# Altium integrated library OSSI-1 Z Panel.IntLib: 229 symbols (part 1 of 2)
Pins are listed as number, name and electrical type; pins without a type are passive.

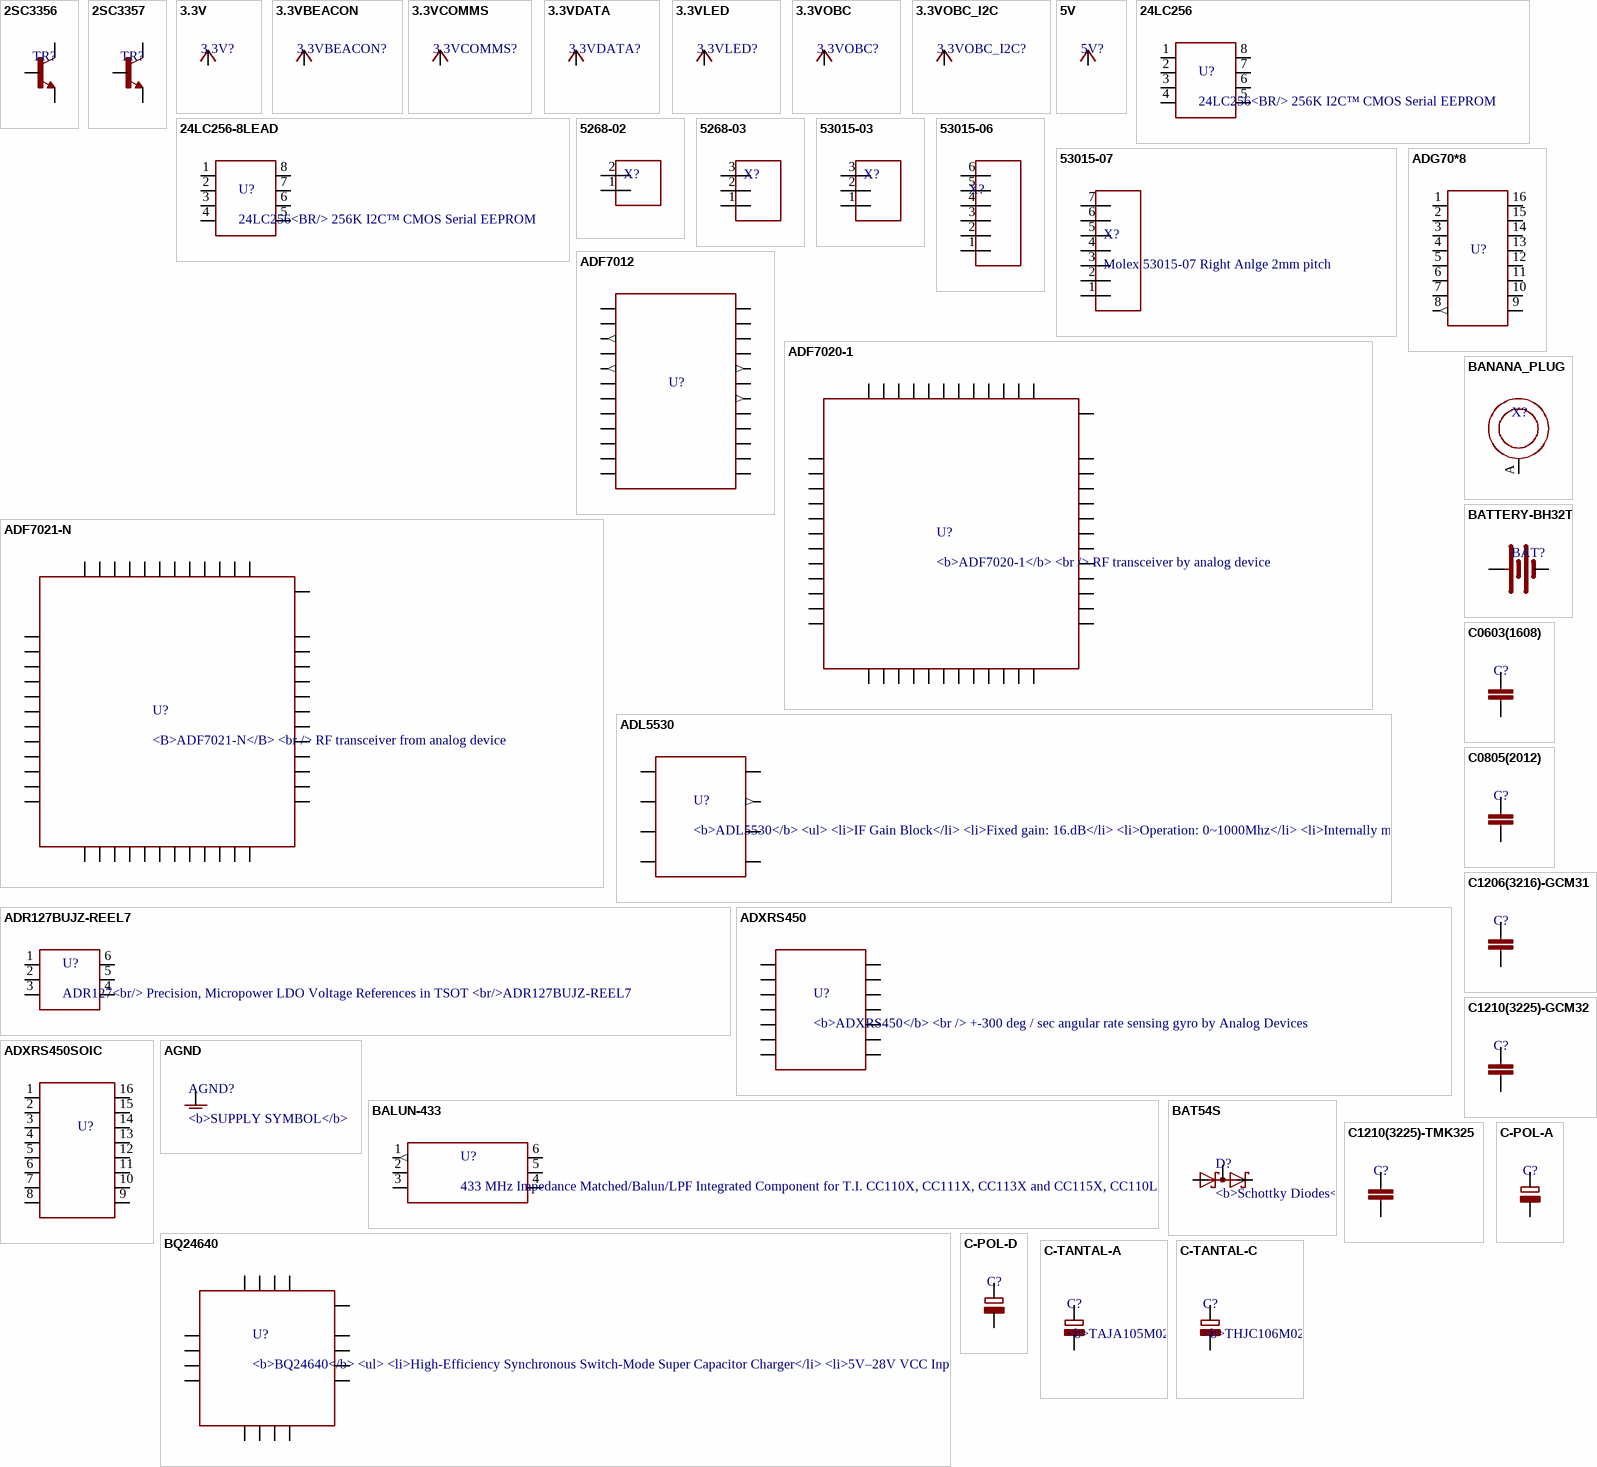
[diagram p0: symbols 2SC3356 to C-TANTAL-C]

## 2SC3356
designator TR?
footprint SOT23-BEC
pins: B, C, E

## 2SC3357
designator TR?
footprint SOT89-R
pins: B, C, E

## 3.3V
designator 3.3V?
pins: 3.3V (oe)

## 3.3VBEACON
designator 3.3VBEACON?
pins: 3.3VBEACON (oe)

## 3.3VCOMMS
designator 3.3VCOMMS?
pins: 3.3VCOMMS (oe)

## 3.3VDATA
designator 3.3VDATA?
pins: 3.3VDATA (oe)

## 3.3VLED
designator 3.3VLED?
pins: 3.3VLED (oe)

## 3.3VOBC
designator 3.3VOBC?
pins: 3.3VOBC (oe)

## 3.3VOBC_I2C
designator 3.3VOBC_I2C?
pins: 3.3VOBC_I2C (oe)

## 5V
designator 5V?
pins: 5V (oe)

## 24LC256
designator U?, comment 24LC256<BR/> / 256K I2C™ CMOS Serial EEPROM
footprint SO8
pins: 1 P$1, 2 P$2, 3 P$3, 4 P$4, 5 P$5, 6 P$6, 7 P$7, 8 P$8

## 24LC256-8LEAD
designator U?, comment 24LC256<BR/> / 256K I2C™ CMOS Serial EEPROM
footprint SO08-208
pins: 1 P$1, 2 P$2, 3 P$3, 4 P$4, 5 P$5, 6 P$6, 7 P$7, 8 P$8

## 5268-02
designator X?
footprint 5628-02
pins: 1, 2

## 5268-03
designator X?
footprint 5268-03
pins: 1, 2, 3

## 53015-03
designator X?
footprint 53015-03
pins: 1, 2, 3

## 53015-06
designator X?
footprint 53015-06
pins: 1, 2, 3, 4, 5, 6

## 53015-07
designator X?, comment Molex 53015-07 / Right Anlge 2mm pitch
footprint 53015-07
pins: 1, 2, 3, 4, 5, 6, 7

## ADF7012
designator U?
footprint TSSOP24
pins: 1 DVDD_1 (power), 2 CREG1, 3 CPOUT (out), 4 TXDATA, 5 TXCLK (out), 6 MUXOUT (power), 7 DGND, 8 OSC1, 9 OSC2, 10 CLKOUT, 11 CLK, 12 DATA, 13 LE, 14 CE, 15 L1, 16 L2, 17 CVCO, 18 VCOIN (out), 19 RFGND (power), 20 RFOUT (out), 21 DVDD_2 (power), 22 AGND (power), 23 RSET, 24 CREG2

## ADF7020-1
designator U?, comment <b>ADF7020-1</b> / <br /> / RF transceiver by analog device
footprint LFCSP48
pins: 1 P$1, 2 P$2, 3 P$3, 4 P$4, 5 P$5, 6 P$6, 7 P$7, 8 P$8, 9 P$9, 10 P$10, 11 P$11, 12 P$12, 13 P$13, 14 P$14, 15 P$15, 16 P$16, 17 P$17, 18 P$18, 19 P$19, 20 P$20, 21 P$21, 22 P$22, 23 P$23, 24 P$24, 25 P$25, 26 P$26, 27 P$27, 28 P$28, 29 P$29, 30 P$30, 31 P$31, 32 P$32, 33 P$33, 34 P$34, 35 P$35, 36 P$36, 37 P$37, 38 P$38, 39 P$39, 40 P$40, 41 P$41, 42 P$42, 43 P$43, 44 P$44, 45 P$45, 46 P$46, 47 P$47, 48 P$48, EXP P$49

## ADF7021-N
designator U?, comment <B>ADF7021-N</B> / <br /> / RF transceiver from analog device
footprint LFCSP48
pins: 1 P$1, 2 P$2, 3 P$3, 4 P$4, 5 P$5, 6 P$6, 7 P$7, 8 P$8, 9 P$9, 10 P$10, 11 P$11, 12 P$12, 13 P$13, 14 P$14, 15 P$15, 16 P$16, 17 P$17, 18 P$18, 19 P$19, 20 P$20, 21 P$21, 22 P$22, 23 P$23, 24 P$24, 25 P$25, 26 P$26, 27 P$27, 28 P$28, 29 P$29, 30 P$30, 31 P$31, 32 P$32, 33 P$33, 34 P$34, 35 P$35, 36 P$36, 37 P$37, 38 P$38, 39 P$39, 40 P$40, 41 P$41, 42 P$42, 43 P$43, 44 P$44, 45 P$45, 46 P$46, 47 P$47, 48 P$48, EXP P$49

## ADG70*8
designator U?
footprint TSSOP16-RU
pins: 1 P$1, 2 P$2, 3 P$3 (power), 4 P$4, 5 P$5, 6 P$6, 7 P$7, 8 P$8 (out), 9 P$9, 10 P$10, 11 P$11, 12 P$12, 13 P$13 (power), 14 P$14 (power), 15 P$15, 16 P$16

## ADL5530
designator U?, comment <b>ADL5530</b> / <ul> / <li>IF Gain Block</li> / <li>Fixed gain: 16.dB</li> / <li>Operation: 0~1000Mhz</li> / <li>Internally matched input and output to 50 Ω</li> / <li>Power supply: 3V or 5V</li> / <li>110 mA power supply current</li> / </ul>
footprint LFCSP8_CP
pins: 1, 2, 3, 4, 5, 6, 7 (out), 8 (power)

## ADR127BUJZ-REEL7
designator U?, comment ADR127<br/> / Precision, Micropower LDO Voltage / References in TSOT / <br/>ADR127BUJZ-REEL7
footprint TSOT-6UJ-6
pins: 1 P$1, 2 P$2, 3 P$3, 4 P$4, 5 P$5, 6 P$6

## ADXRS450
designator U?, comment <b>ADXRS450</b> / <br /> / +-300 deg / sec angular rate sensing gyro by Analog Devices
footprint LCC_V
pins: 1 P$1 (power), 2 P$2 (power), 3 P$3, 4 P$4 (power), 5 P$5, 6 P$6, 7 P$7 (power), 8 P$8 (power), 9 P$9, 10 P$10, 11 P$11 (power), 12 P$12, 13 P$13 (power), 14 P$14 (power)

## ADXRS450SOIC
designator U?
footprint SOIC-16CAV
pins: 1 P$1 (power), 2 P$2 (power), 3 P$3 (power), 4 P$4, 5 P$5, 6 P$6 (power), 7 P$7 (power), 8 P$8 (power), 9 P$9 (power), 10 P$10 (power), 11 P$11 (power), 12 P$12 (power), 13 P$13 (power), 14 P$14 (power), 15 P$15, 16 P$16

## AGND
designator AGND?, comment <b>SUPPLY SYMBOL</b>
pins: AGND (oe)

## BALUN-433
designator U?, comment 433 MHz Impedance Matched/Balun/LPF Integrated Component for T.I. CC110X, CC111X, CC113X and CC115X, CC110L, CC113L, CC115L and CC430<br /> / P/N 0433BM15A0001<br /> / <a href="www.johansontechnology.com">www.johansontechnology.com</a>
footprint 0433BM15A0001
pins: 1 (out), 2 (power), 3, 4, 5 (power), 6 (power)

## BANANA_PLUG
designator X?
footprint BANANA_PLUG
pins: A

## BAT54S
designator D?, comment <b>Schottky Diodes</b><p> / Pin connection corrected 2011-05-04<br> / Source: Fairchild .. BAT54.pdf
footprint SOT23
pins: 1 A1, 2 C2, 3 C1A2

## BATTERY-BH32T
designator BAT?
footprint BH32T-C-G
pins: N - (power), P + (power)

## BQ24640
designator U?, comment <b>BQ24640</b> / <ul> / <li>High-Efficiency Synchronous Switch-Mode Super Capacitor Charger</li> / <li>5V–28V VCC Input Voltage Range</li> / <li>Over 90% Efficiency for up to 10A Charge / Current</li> / </ul>
footprint QFN-16
pins: 1 P$1, 2 P$2, 3 P$3, 4 P$4, 5 P$5, 6 P$6, 7 P$7, 8 P$8, 9 P$9, 10 P$10, 11 P$11, 12 P$12, 13 P$13, 14 P$14, 15 P$15, 16 P$16, TPAD P$17 (power)

## C0603(1608)
designator C?
footprint C0603(1608)
pins: 1, 2

## C0805(2012)
designator C?
footprint C0805(2012)
pins: 1, 2

## C1206(3216)-GCM31
designator C?
footprint C1206-GCM31
pins: P$1 1, P$2 2

## C1210(3225)-GCM32
designator C?
footprint C1210-GCM32
pins: P$1 1, P$2 2

## C1210(3225)-TMK325
designator C?
footprint C1210-TMK325
pins: P$1 1, P$2 2

## C-POL-A
designator C?
footprint C3216-18TANTAL_A
pins: +, -

## C-POL-D
designator C?
footprint C7343-31TANTAL_D
pins: +, -

## C-TANTAL-A
designator C?, comment <b>TAJA105M020RNJ</b> / <ul> / <li>Tantal Capacitor / </li> / <li>Manufacturer: AVX / </li> / <li>1206(3126) / </li> / <li>Ref: www.avx.com/docs/techinfo/tantappl.pdf</li> / </ul>
footprint C1206(3216)-A
pins: 1 +, 2 -

## C-TANTAL-C
designator C?, comment <b>THJC106M025RJN</b> / <ul> / <li>Taltal Capacitor</li> / <li> manufacture: AVX </li> / <li>2312(6032)</li> / </ul>
footprint C2312(6032)-C
pins: 1 +, 2 -

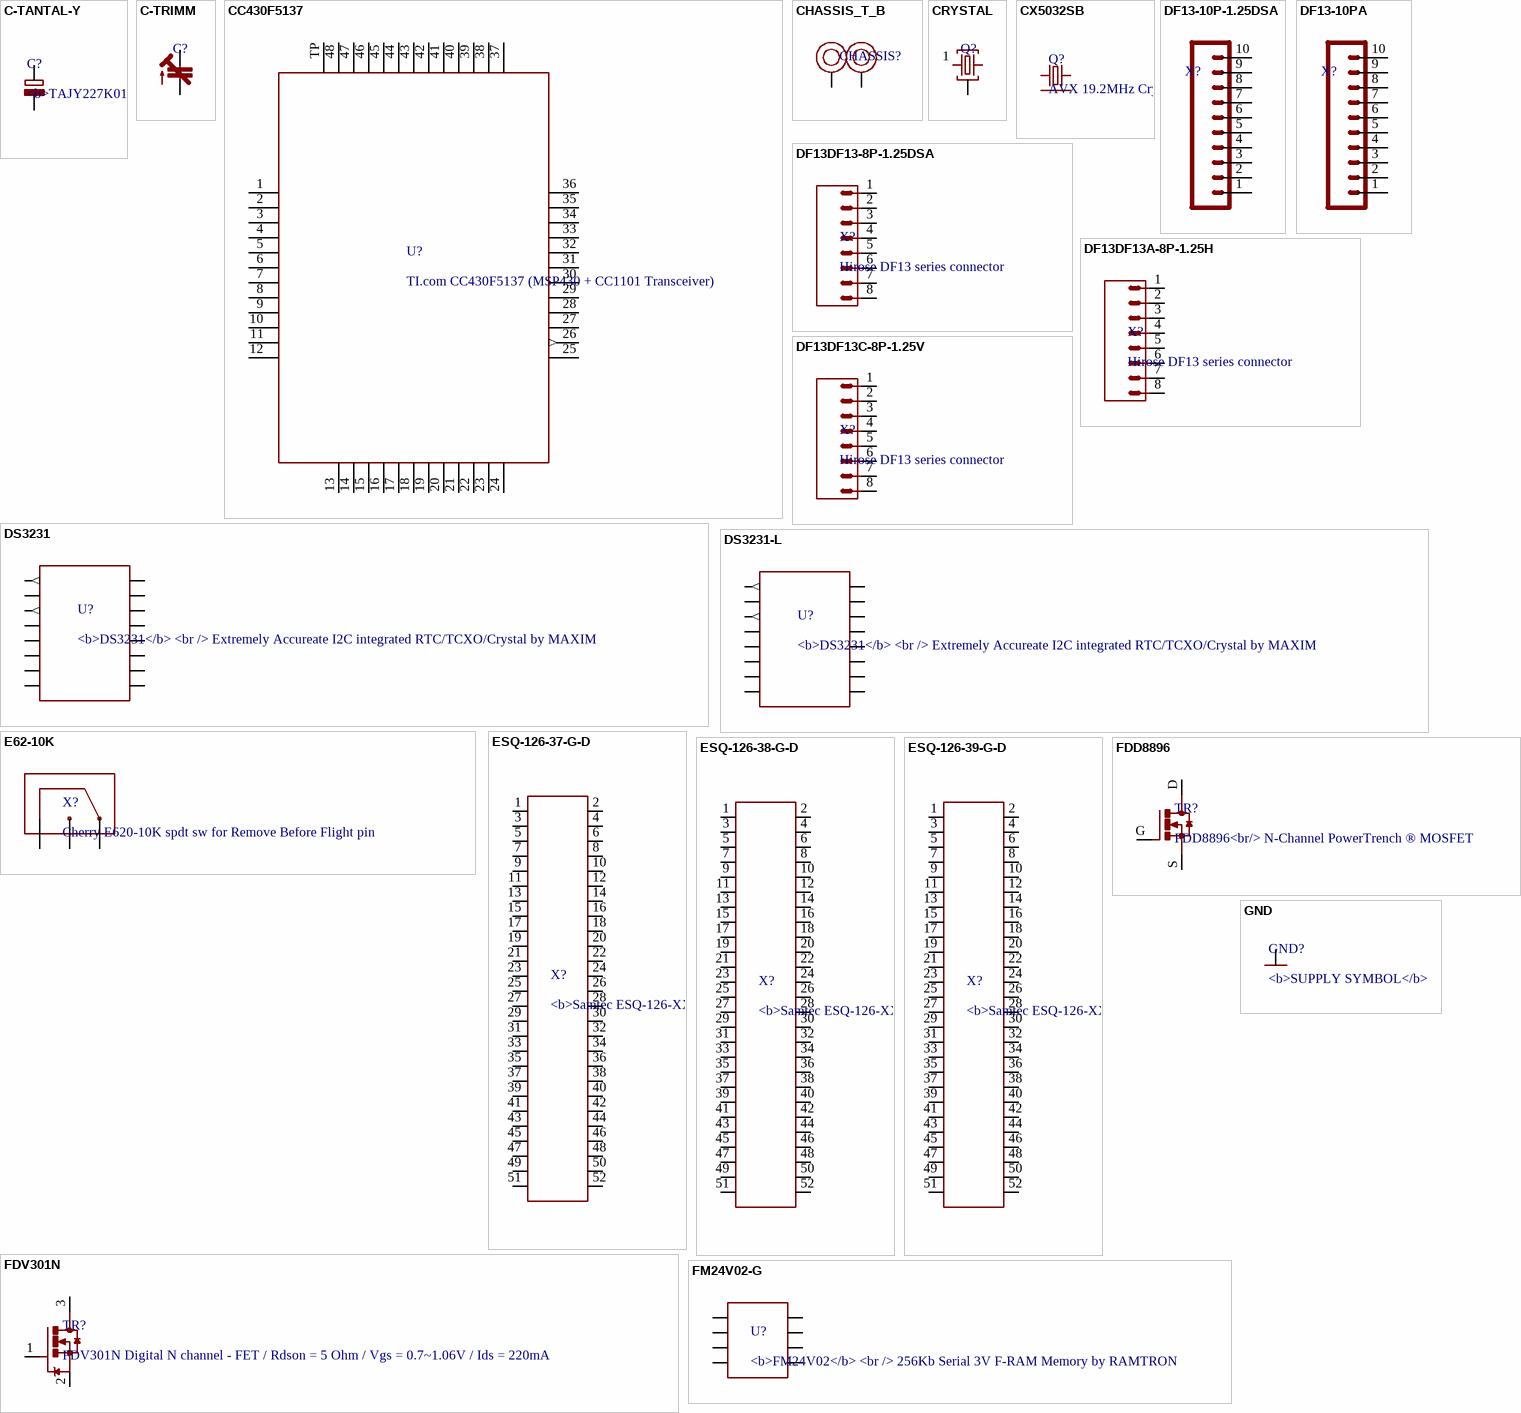
[diagram p1: symbols C-TANTAL-Y to GND]

## C-TANTAL-Y
designator C?, comment <b>TAJY227K010RNJ</b> / <ul> / <li>Taltal Capacitor</li> / <li> manufacture: AVX </li> / <li>2917(7343)</li> / </ul>
footprint C2917(7343)-Y
pins: 1 +, 2 -

## C-TRIMM
designator C?
footprint TZB4Z250BA10R00
pins: + E, - A

## CC430F5137
designator U?, comment TI.com CC430F5137 (MSP430 + CC1101 Transceiver)
footprint RGZ48
pins: 1 P$1, 2 P$2, 3 P$3, 4 P$4, 5 P$5, 6 P$6, 7 P$7 (power), 8 P$8 (power), 9 P$9, 10 P$10, 11 P$11, 12 P$12, 13 P$13, 14 P$14, 15 P$15, 16 P$16, 17 P$17, 18 P$18, 19 P$19, 20 P$20, 21 P$21, 22 P$22 (power), 23 P$23, 24 P$24, 25 P$25, 26 P$26 (out), 27 P$27 (power), 28 P$28, 29 P$29, 30 P$30, 31 P$31 (power), 32 P$32 (power), 33 P$33 (power), 34 P$34 (power), 35 P$35, 36 P$36, 37 P$37, 38 P$38, 39 P$39, 40 P$40, 41 P$41 (power), 42 P$42 (power), 43 P$43, 44 P$44, 45 P$45, 46 P$46, 47 P$47, 48 P$48, TP P$49 (power)

## CHASSIS_T_B
designator CHASSIS?
footprint CHASSIS_T_B
pins: A, B

## CRYSTAL
designator Q?
footprint HC_49US
pins: 1, 2, 3

## CX5032SB
designator Q?, comment AVX 19.2MHz Crystal CX5032SB19200F0FLJZZ <br/> / Ground pin 2 and 4 <br/> / <ul> / <li> / CRYSTAL, SM, CX-96F, 19.200MHZ</li> / <li> / Frequency:19.2MHz / </li> / <li> / Frequency Tolerance:± 10ppm / </li> / <li> / Load Capacitance:10pF / </li> / <li> / <span class="prodAttrName"> Frequency Stability:</span> / <span class="prodAttrValue">± 10ppm</span> / </li> / <li> / <span class="prodAttrName"> Operating Temperature Range:</span> / <span class="prodAttrValue">-30°C to +85°C</span> / </li> / <li> / <span class="prodAttrName"> Crystal Mounting Type:</span> / <span class="prodAttrValue">SMD</span> / </li> / <li> / <span class="prodAttrName"> Crystal Case Type:</span> / <span class="prodAttrValue">5mm x 3.2mm</span> / </li> / <li> / <span class="prodAttrName"> No. of Pins:</span> / <span class="prodAttrValue">4</span> / </li> / <li> / <span class="prodAttrName"> SVHC:</span> / <span class="prodAttrValue">No SVHC (18-Jun-2012)</span> / </li> / <li> / <span class="prodAttrName"> Accuracy:</span> / <span class="prodAttrValue">± 10ppm</span> / </li> / <li> / <span class="prodAttrName"> Frequency Accuracy + @:</span> / <span class="prodAttrValue">10ppm</span> / </li> / <li> / <span class="prodAttrName"> Frequency Accuracy - @:</span> / <span class="prodAttrValue">10ppm</span> / </li> / <li> / <span class="prodAttrName"> Operating Temperature Max:</span> / <span class="prodAttrValue">85°C</span> / </li> / <li> / <span class="prodAttrName"> Operating Temperature Min:</span> / <span class="prodAttrValue">-30°C</span> / </li> / <li> / <span class="prodAttrName"> Output Frequency:</span> / <span class="prodAttrValue">19.200MHz</span> / </li> / <li> / <span class="prodAttrName"> Series:</span> / <span class="prodAttrValue">CX5032SB</span> / </li> / <li> / <span class="prodAttrName"> Temperature Stability + @:</span> / <span class="prodAttrValue">15 ppm</span> / </li> / <li> / <span class="prodAttrName"> Temperature Stability - @:</span> / <span class="prodAttrValue">15 ppm</span> / </li> / <li> / <span class="prodAttrName"> Temperature Stabilty:</span> / <span class="prodAttrValue">± 10ppm</span> / </li> / </ul>
footprint CX5032
pins: 1, 2, 3, 4

## DF13-10P-1.25DSA
designator X?
footprint DF13-10P-1.25DSA
pins: 1, 2, 3, 4, 5, 6, 7, 8, 9, 10

## DF13-10PA
designator X?
footprint DF13A-10P
pins: 1, 2, 3, 4, 5, 6, 7, 8, 9, 10

## DF13DF13-8P-1.25DSA
designator X?, comment Hirose DF13 series connector
footprint DF13-8P-1.25DSA
pins: 1, 2, 3, 4, 5, 6, 7, 8

## DF13DF13A-8P-1.25H
designator X?, comment Hirose DF13 series connector
footprint DF13A-8P
pins: 1, 2, 3, 4, 5, 6, 7, 8

## DF13DF13C-8P-1.25V
designator X?, comment Hirose DF13 series connector
footprint DF13C-8P
pins: 1, 2, 3, 4, 5, 6, 7, 8

## DS3231
designator U?, comment <b>DS3231</b> / <br /> / Extremely Accureate I2C integrated RTC/TCXO/Crystal by MAXIM
footprint SO16
pins: 1 P$1 (out), 2 P$2 (power), 3 P$3 (out), 4 P$4, 5 P$5, 6 P$6, 7 P$7, 8 P$8, 9 P$9, 10 P$10, 11 P$11, 12 P$12, 13 P$13 (power), 14 P$14 (power), 15 P$15, 16 P$16

## DS3231-L
designator U?, comment <b>DS3231</b> / <br /> / Extremely Accureate I2C integrated RTC/TCXO/Crystal by MAXIM
footprint SO16L
pins: 1 P$1 (out), 2 P$2 (power), 3 P$3 (out), 4 P$4, 5 P$5, 6 P$6, 7 P$7, 8 P$8, 9 P$9, 10 P$10, 11 P$11, 12 P$12, 13 P$13 (power), 14 P$14 (power), 15 P$15, 16 P$16

## E62-10K
designator X?, comment Cherry E620-10K spdt sw for Remove Before Flight pin
footprint E62-10K
pins: C, NC, NO

## ESQ-126-37-G-D
designator X?, comment <b>Samtec ESQ-126-XX-G-D Elevated Sockets Seires</b> / <ul> / <li> ESQ-126-37-G-D</li> / <li> ESQ-126-38-G-D</li> / <li> ESQ-126-39-G-D</li> / </ul>
footprint ESQ-126-XX-X-D
pins: 1, 2, 3, 4, 5, 6, 7, 8, 9, 10, 11, 12, 13, 14, 15, 16, 17, 18, 19, 20, 21, 22, 23, 24, 25, 26, 27, 28, 29, 30, 31, 32, 33, 34, 35, 36, 37, 38, 39, 40, 41, 42, 43, 44, 45, 46, 47, 48, 49, 50, 51, 52

## ESQ-126-38-G-D
designator X?, comment <b>Samtec ESQ-126-XX-G-D Elevated Sockets Seires</b> / <ul> / <li> ESQ-126-37-G-D</li> / <li> ESQ-126-38-G-D</li> / <li> ESQ-126-39-G-D</li> / </ul>
footprint ESQ-126-XX-X-D
pins: 1, 2, 3, 4, 5, 6, 7, 8, 9, 10, 11, 12, 13, 14, 15, 16, 17, 18, 19, 20, 21, 22, 23, 24, 25, 26, 27, 28, 29, 30, 31, 32, 33, 34, 35, 36, 37, 38, 39, 40, 41, 42, 43, 44, 45, 46, 47, 48, 49, 50, 51, 52

## ESQ-126-39-G-D
designator X?, comment <b>Samtec ESQ-126-XX-G-D Elevated Sockets Seires</b> / <ul> / <li> ESQ-126-37-G-D</li> / <li> ESQ-126-38-G-D</li> / <li> ESQ-126-39-G-D</li> / </ul>
footprint ESQ-126-XX-X-D
pins: 1, 2, 3, 4, 5, 6, 7, 8, 9, 10, 11, 12, 13, 14, 15, 16, 17, 18, 19, 20, 21, 22, 23, 24, 25, 26, 27, 28, 29, 30, 31, 32, 33, 34, 35, 36, 37, 38, 39, 40, 41, 42, 43, 44, 45, 46, 47, 48, 49, 50, 51, 52

## FDD8896
designator TR?, comment FDD8896<br/> / N-Channel PowerTrench ® MOSFET
footprint TO252
pins: D, G, S

## FDV301N
designator TR?, comment FDV301N Digital N channel - FET / Rdson = 5 Ohm / Vgs = 0.7~1.06V / Ids = 220mA
footprint SOT23
pins: 1 G, 2 S, 3 D

## FM24V02-G
designator U?, comment <b>FM24V02</b> / <br /> / 256Kb Serial 3V F-RAM Memory by RAMTRON
footprint SO8
pins: 1 A0, 2 A1, 3 A2, 4 VSS (power), 5 SDA, 6 SCL, 7 WP, 8 VDD (power)

## GND
designator GND?, comment <b>SUPPLY SYMBOL</b>
pins: GND (oe)

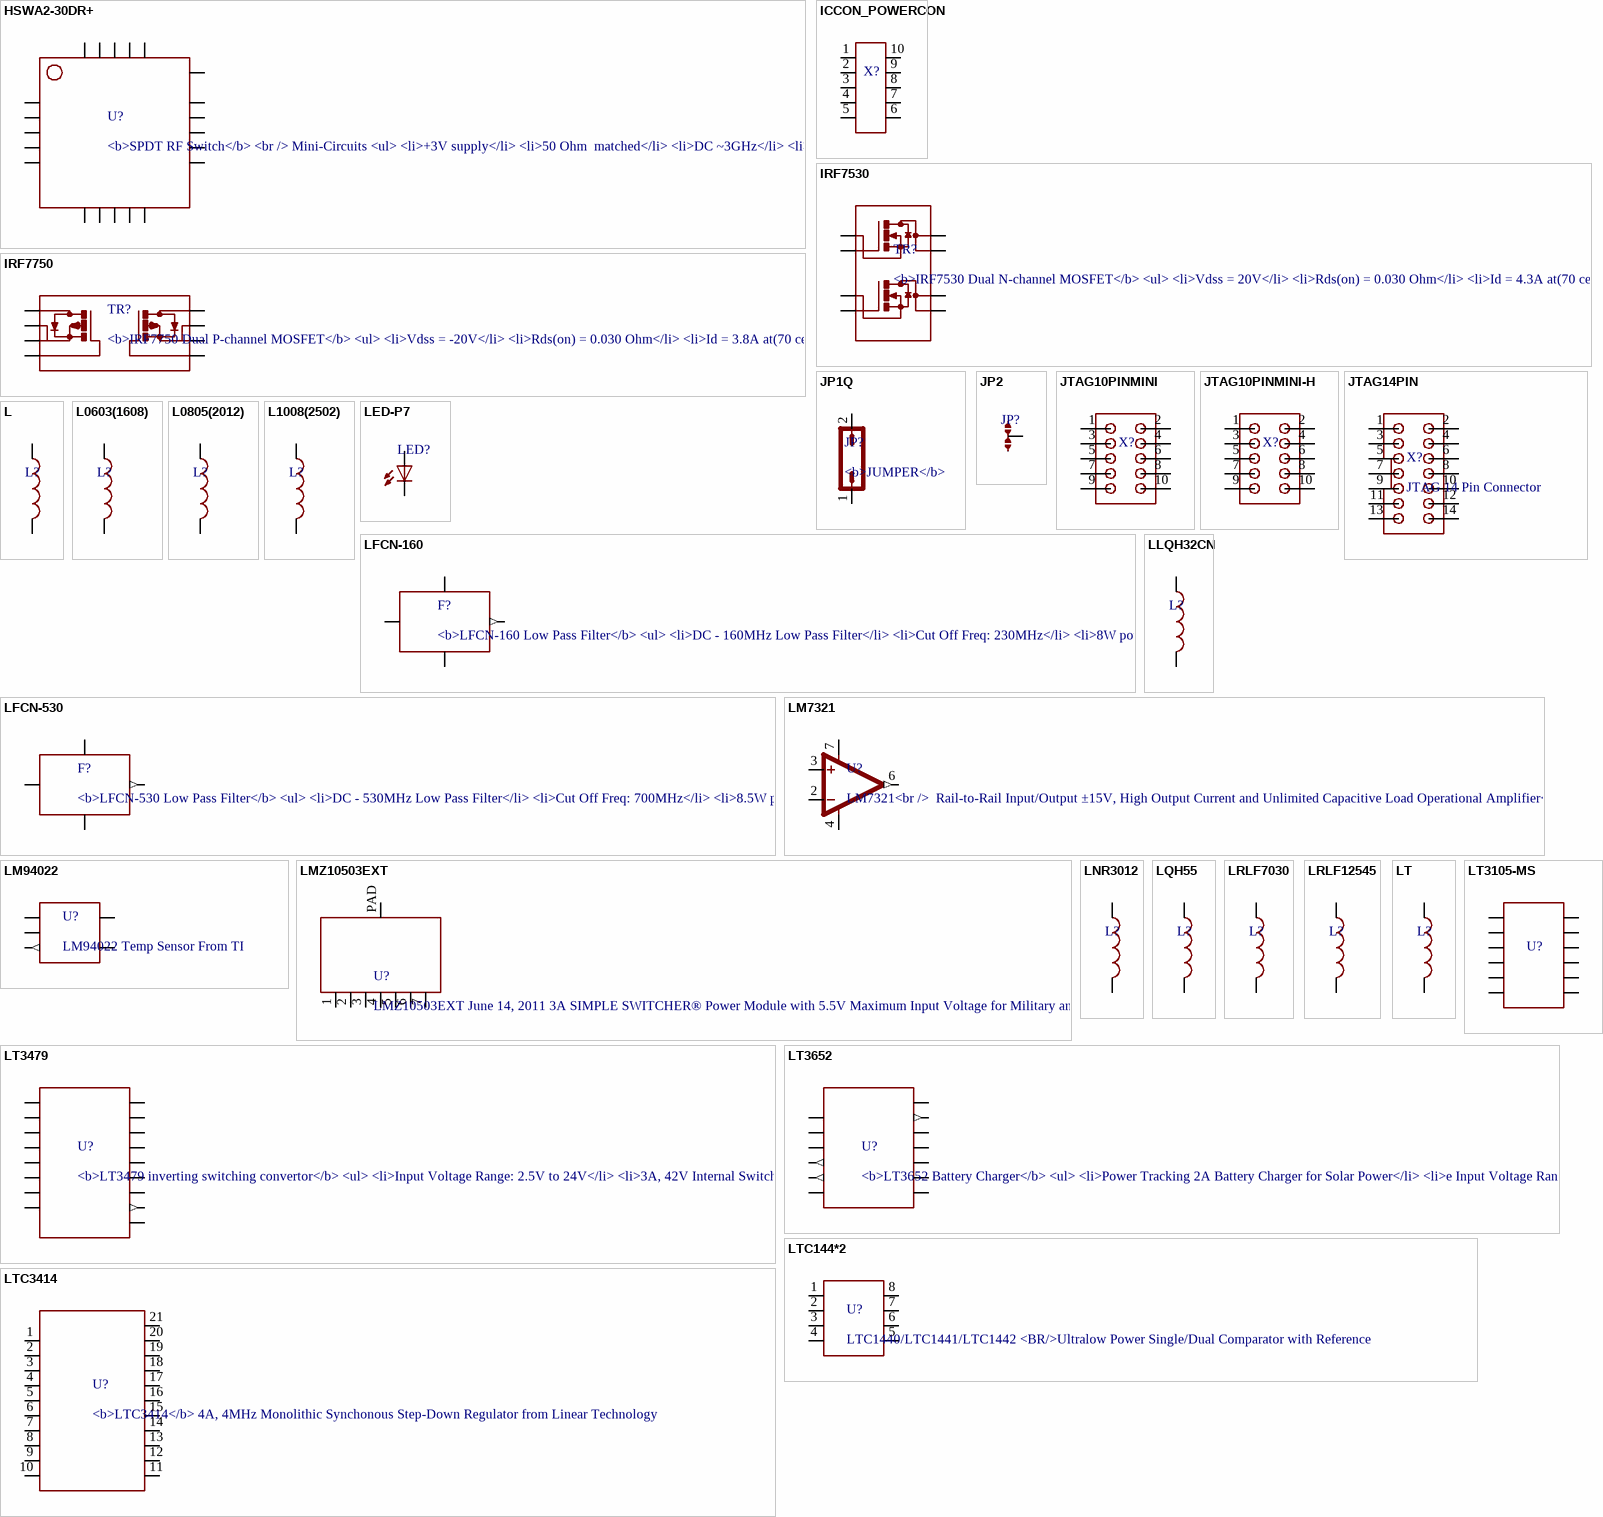
[diagram p2: symbols HSWA2-30DR+ to LTC3414]

## HSWA2-30DR+
designator U?, comment <b>SPDT RF Switch</b> / <br /> / Mini-Circuits / <ul> / <li>+3V supply</li> / <li>50 Ohm  matched</li> / <li>DC ~3GHz</li> / <li>DC ~3GHz</li> / <li>Maximum input power: 33dBm</li> / </ul>
footprint DG983-1
pins: 1 P$1 (power), 2 P$2 (power), 3 P$3, 4 P$4 (power), 5 P$5 (power), 6 P$6 (power), 7 P$7 (power), 8 P$8, 9 P$9 (power), 10 P$10 (power), 11 P$11 (power), 12 P$12 (power), 13 P$13, 14 P$14 (power), 15 P$15 (power), 16 P$16, 17 P$17, 18 P$18 (power), 19 P$19 (power), 20 P$20 (power), PAD P$21

## ICCON_POWERCON
designator X?
footprint ICCON6643220-1
pins: 1 P$1, 2 P$2, 3 P$3, 4 P$4, 5 P$5, 6 P$6, 7 P$7, 8 P$8, 9 P$9, 10 P$10

## IRF7530
designator TR?, comment <b>IRF7530 Dual N-channel MOSFET</b> / <ul> / <li>Vdss = 20V</li> / <li>Rds(on) = 0.030 Ohm</li> / <li>Id = 4.3A at(70 celsius degree) </li> / <li>Vgs = 1.2V max</li> / </ul>
footprint MICRO-8
pins: 1, 2, 3, 4, 5, 6, 7, 8

## IRF7750
designator TR?, comment <b>IRF7750 Dual P-channel MOSFET</b> / <ul> / <li>Vdss = -20V</li> / <li>Rds(on) = 0.030 Ohm</li> / <li>Id = 3.8A at(70 celsius degree) </li> / <li>Vgs = -1.2V max</li> / </ul>
footprint TSSOP-8
pins: 1, 2, 3, 4, 5, 6, 7, 8

## JP1Q
designator JP?, comment <b>JUMPER</b>
footprint JP1
pins: 1, 2

## JP2
designator JP?
footprint JP2SMD0603
pins: 1, 2, 3

## JTAG10PINMINI
designator X?
footprint JTAG10PINMINI
pins: 1, 2, 3, 4, 5, 6, 7, 8, 9, 10

## JTAG10PINMINI-H
designator X?
footprint M50-3200545
pins: 1, 2, 3, 4, 5, 6, 7, 8, 9, 10

## JTAG14PIN
designator X?, comment JTAG 14 Pin Connector
footprint 2514-6002UB
pins: 1, 2, 3, 4, 5, 6, 7, 8, 9, 10, 11, 12, 13, 14

## L
designator L?
footprint CDRH3D18
pins: P$1 1, P$2 2

## L0603(1608)
designator L?
footprint L0603(1608)
pins: 1, 2

## L0805(2012)
designator L?
footprint L0805(2012)
pins: 1, 2

## L1008(2502)
designator L?
footprint L1008(2520)
pins: P$1 1, P$2 2

## LED-P7
designator LED?
footprint P7
pins: A, C

## LFCN-160
designator F?, comment <b>LFCN-160 Low Pass Filter</b> / <ul> / <li>DC - 160MHz Low Pass Filter</li> / <li>Cut Off Freq: 230MHz</li> / <li>8W power rating ( degraded to 3W at 100 celcius degree)</li> / </ul>
footprint LFCN
pins: 1 P$1, 2 P$2 (power), 3 P$3 (out), 4 P$4 (power)

## LFCN-530
designator F?, comment <b>LFCN-530 Low Pass Filter</b> / <ul> / <li>DC - 530MHz Low Pass Filter</li> / <li>Cut Off Freq: 700MHz</li> / <li>8.5W power rating ( degraded to 3.5W at 100 celcius degree)</li> / </ul>
footprint LFCN
pins: 1 P$1, 2 P$2 (power), 3 P$3 (out), 4 P$4 (power)

## LLQH32CN
designator L?
footprint LQH32CN331K23L
pins: P$1 1, P$2 2

## LM7321
designator U?, comment LM7321<br /> / Rail-to-Rail Input/Output ±15V, High Output Current and Unlimited Capacitive Load Operational Amplifier<br /> / Texas Intrument
footprint SO8
pins: 2 -IN, 3 +IN, 4 V- (power), 6 OUT (out), 7 V+ (power)

## LM94022
designator U?, comment LM94022 Temp Sensor From TI
footprint SC70-5
pins: 1 P$1, 2 P$2 (power), 3 P$3 (out), 4 P$4 (power), 5 P$5

## LMZ10503EXT
designator U?, comment LMZ10503EXT / June 14, 2011 / 3A SIMPLE SWITCHER® Power Module with 5.5V Maximum / Input Voltage for Military and Rugged Applications
footprint TO-PMOD-7
pins: 1 P$1 (power), 2 P$2, 3 P$3, 4 P$4 (power), 5 P$5, 6 P$6 (power), 7 P$7 (power), PAD P$8 (power)

## LNR3012
designator L?
footprint NR3012
pins: P$1 1, P$2 2

## LQH55
designator L?
footprint L(2220)
pins: P$1 1, P$2 2

## LRLF7030
designator L?
footprint RLF7030
pins: P$1 1, P$2 2

## LRLF12545
designator L?
footprint RLF12545
pins: P$1 1, P$2 2

## LT
designator L?
footprint THRUHOLE10MM
pins: 1, 2

## LT3105-MS
designator U?
footprint MSOP-12-MS
pins: 1 P$1, 2 P$2, 3 P$3, 4 P$4, 5 P$5, 6 P$6, 7 P$7, 8 P$8, 9 P$9, 10 P$10, 11 P$11, 12 P$12

## LT3479
designator U?, comment <b>LT3479 inverting switching convertor</b> / <ul> / <li>Input Voltage Range: 2.5V to 24V</li> / <li>3A, 42V Internal Switch</li> / <li> Efﬁciency Power Conversion: Up to 89%</li> / <li> Soft-Start</li> / <li>Frequency Set by External Resistor: 200kHz to 3.5MHz</li> / <li>Protection Against Input Short Circuits and Hot Plugging</li> / </ul>
footprint TSSOP16-FE
pins: 1 P$1 (power), 2 P$2 (power), 3 P$3, 4 P$4 (power), 5 P$5 (power), 6 P$6, 7 P$7, 8 P$8 (power), 9 P$9 (out), 10 P$10, 11 P$11, 12 P$12, 13 P$13, 14 P$14 (power), 15 P$15 (power), 16 P$16 (power), PPAD P$17 (power)

## LT3652
designator U?, comment <b>LT3652 Battery Charger</b> / <ul> / <li>Power Tracking 2A Battery Charger for Solar Power</li> / <li>e Input Voltage Range: 4.95V to 32V (40V Abs Max)</li> / <li>Programmable Charge Rate Up to 2A</li> / <li>Programmable Float Voltage Up to 14.4V</li> / <li>1MHz Fixed Frequency</li> / </ul>
footprint MSOP-12-MSE
pins: 1 P$1 (power), 2 P$2, 3 P$3, 4 P$4 (out), 5 P$5 (out), 6 P$6, 7 P$7, 8 P$8, 9 P$9, 10 P$10, 11 P$11, 12 P$12 (out), 13 P$13

## LTC144*2
designator U?, comment LTC1440/LTC1441/LTC1442 / <BR/>Ultralow Power Single/Dual Comparator with Reference
footprint SO8
pins: 1 P$1, 2 P$2, 3 P$3, 4 P$4, 5 P$5, 6 P$6, 7 P$7, 8 P$8

## LTC3414
designator U?, comment <b>LTC3414</b> / 4A, 4MHz Monolithic Synchonous Step-Down Regulator from Linear Technology
footprint TSSOP20-FE
pins: 1 P$1, 2 P$2, 3 P$3, 4 P$4, 5 P$5, 6 P$6, 7 P$7, 8 P$8, 9 P$9, 10 P$10, 11 P$11, 12 P$12, 13 P$13, 14 P$14, 15 P$15, 16 P$16, 17 P$17, 18 P$18, 19 P$19, 20 P$20, 21 P$21

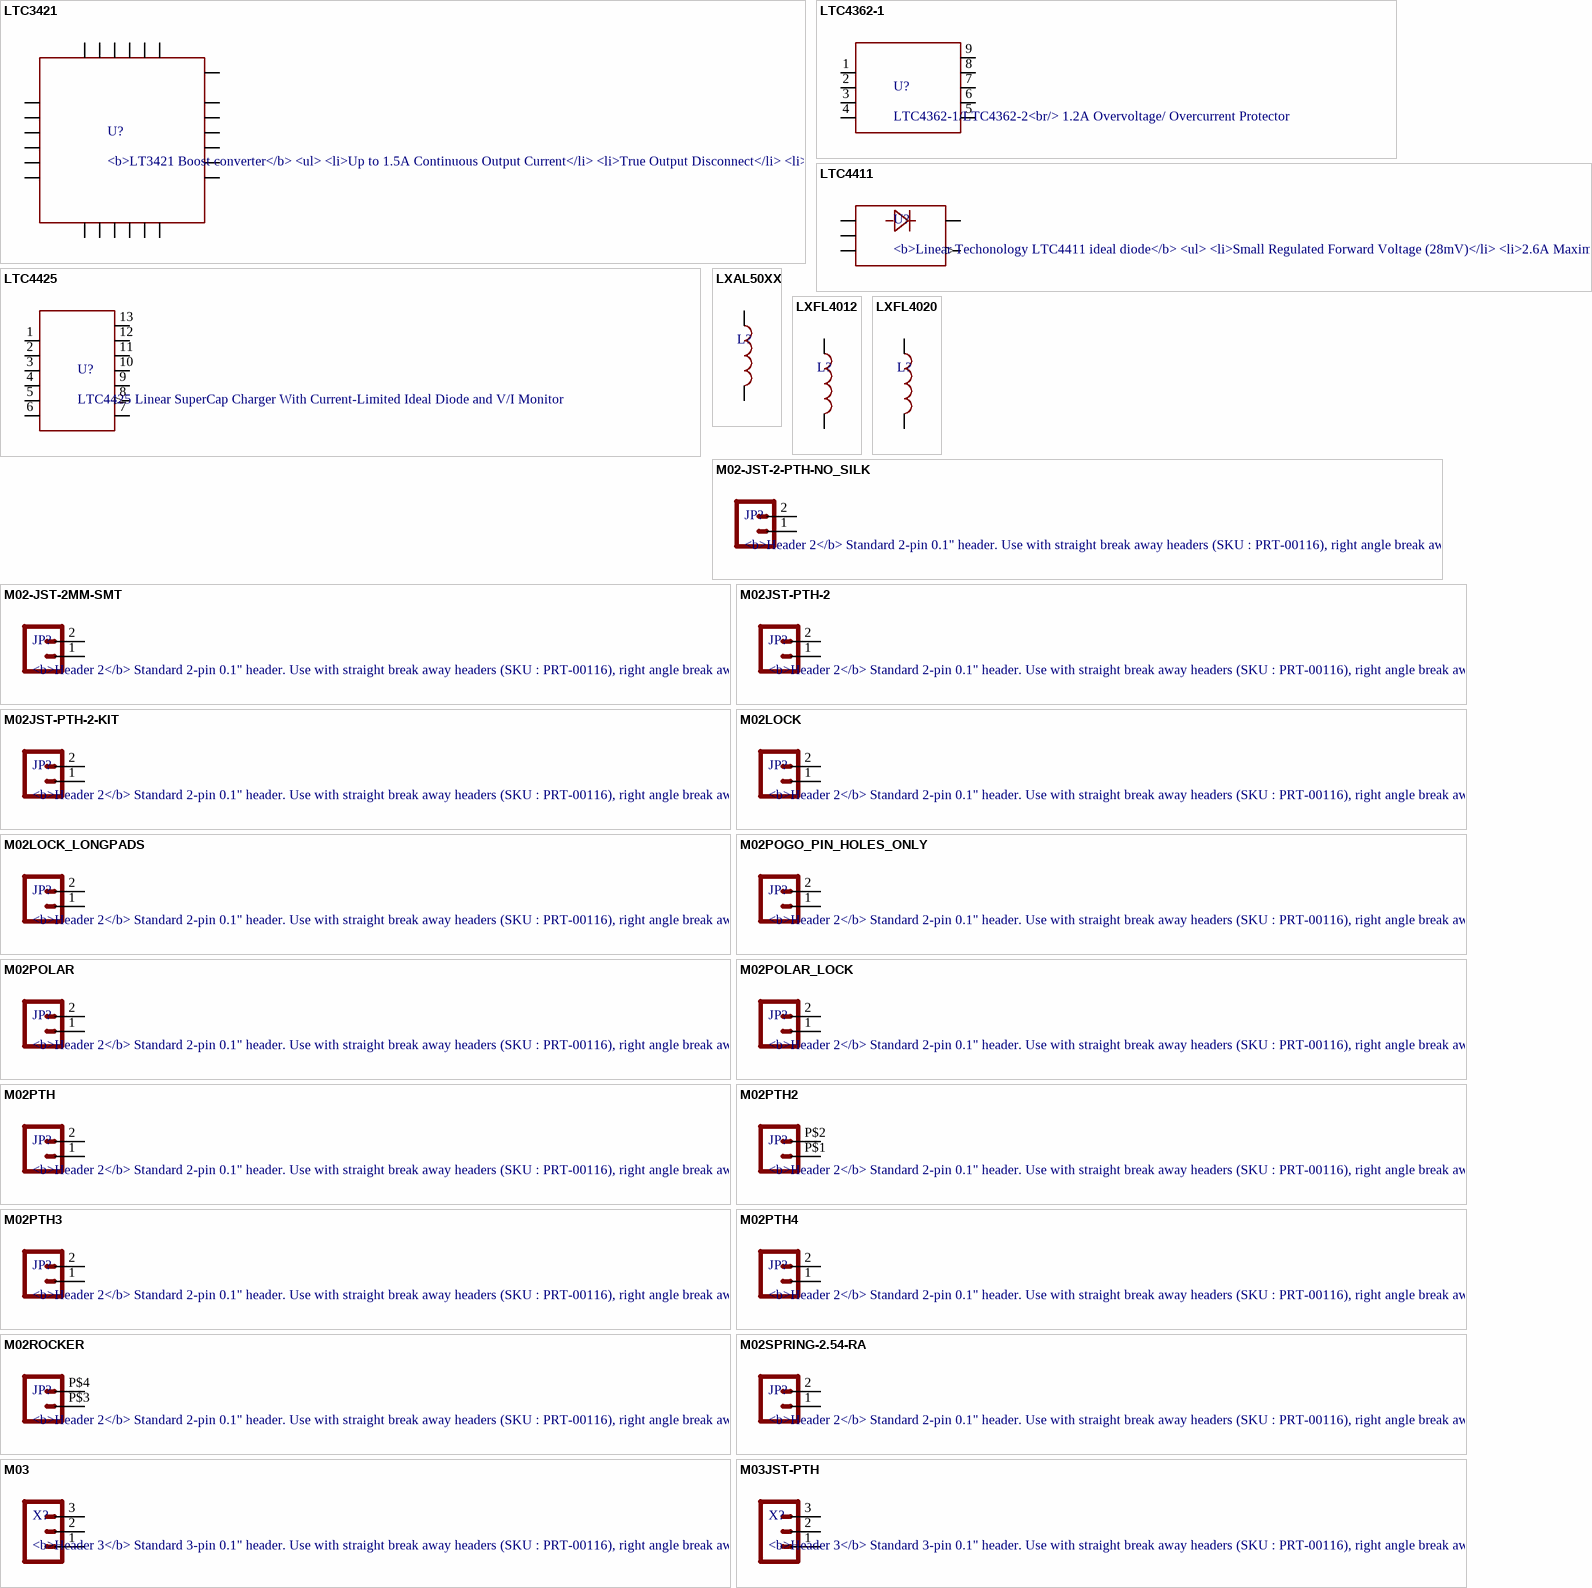
[diagram p3: symbols LTC3421 to M03JST-PTH]

## LTC3421
designator U?, comment <b>LT3421 Boost converter</b> / <ul> / <li>Up to 1.5A Continuous Output Current</li> / <li>True Output Disconnect</li> / <li>0.5V to 4.5V Input Range</li> / <li>n 2.4V to 5.25V Adjustable Output Voltage</li> / <li>Up to 96% Efficiency</li> / <li> Fixed Frequency Operation Up to 3MH</li> / </ul>
footprint QFN-24
pins: 1 P$1, 2 P$2, 3 P$3, 4 P$4, 5 P$5, 6 P$6, 7 P$7, 8 P$8, 9 P$9, 10 P$10, 11 P$11, 12 P$12, 13 P$13, 14 P$14, 15 P$15, 16 P$16, 17 P$17, 18 P$18, 19 P$19, 20 P$20, 21 P$21, 22 P$22, 23 P$23, 24 P$24, 25 P$25

## LTC4362-1
designator U?, comment LTC4362-1/LTC4362-2<br/> / 1.2A Overvoltage/ / Overcurrent Protector
footprint DFN8-2X3
pins: 1 P$1, 2 P$2, 3 P$3, 4 P$4, 5 P$5, 6 P$6, 7 P$7, 8 P$8, 9 P$9

## LTC4411
designator U?, comment <b>Linear Techonology LTC4411 ideal diode</b> / <ul> / <li>Small Regulated Forward Voltage (28mV)</li> / <li>2.6A Maximum Forward Current</li> / <li>2.6V to 5.5V Operating Range</li> / <li>MOSFET based</li> / </ul>
footprint TSOT23-5
pins: P$1, P$2 (power), P$3, P$4 (out), P$5 (power)

## LTC4425
designator U?, comment LTC4425 Linear SuperCap Charger With Current-Limited Ideal Diode and V/I Monitor
footprint MSOP-12-MSE
pins: 1 P$1 (power), 2 P$2 (power), 3 P$3, 4 P$4, 5 P$5, 6 P$6, 7 P$7, 8 P$8 (out), 9 P$9, 10 P$10 (power), 11 P$11 (power), 12 P$12 (power), 13 P$13 (power)

## LXAL50XX
designator L?
footprint XAL50XX
pins: P$1 1, P$2 2

## LXFL4012
designator L?
footprint XFL4012
pins: P$1 1, P$2 2

## LXFL4020
designator L?
footprint L(4040)
pins: 1, 2

## M02-JST-2-PTH-NO_SILK
designator JP?, comment <b>Header 2</b> / Standard 2-pin 0.1" header. Use with straight break away headers (SKU : PRT-00116), right angle break away headers (PRT-00553), swiss pins (PRT-00743), machine pins (PRT-00117), and female headers (PRT-00115). Molex polarized connector foot print use with SKU : PRT-08233 with associated crimp pins and housings.
footprint JST-2-PTH-NS
pins: 1, 2

## M02-JST-2MM-SMT
designator JP?, comment <b>Header 2</b> / Standard 2-pin 0.1" header. Use with straight break away headers (SKU : PRT-00116), right angle break away headers (PRT-00553), swiss pins (PRT-00743), machine pins (PRT-00117), and female headers (PRT-00115). Molex polarized connector foot print use with SKU : PRT-08233 with associated crimp pins and housings.
footprint JST-2-SMD
pins: 1, 2

## M02JST-PTH-2
designator JP?, comment <b>Header 2</b> / Standard 2-pin 0.1" header. Use with straight break away headers (SKU : PRT-00116), right angle break away headers (PRT-00553), swiss pins (PRT-00743), machine pins (PRT-00117), and female headers (PRT-00115). Molex polarized connector foot print use with SKU : PRT-08233 with associated crimp pins and housings.
footprint JST-2-PTH
pins: 1, 2

## M02JST-PTH-2-KIT
designator JP?, comment <b>Header 2</b> / Standard 2-pin 0.1" header. Use with straight break away headers (SKU : PRT-00116), right angle break away headers (PRT-00553), swiss pins (PRT-00743), machine pins (PRT-00117), and female headers (PRT-00115). Molex polarized connector foot print use with SKU : PRT-08233 with associated crimp pins and housings.
footprint JST-2-PTH-KIT
pins: 1, 2

## M02LOCK
designator JP?, comment <b>Header 2</b> / Standard 2-pin 0.1" header. Use with straight break away headers (SKU : PRT-00116), right angle break away headers (PRT-00553), swiss pins (PRT-00743), machine pins (PRT-00117), and female headers (PRT-00115). Molex polarized connector foot print use with SKU : PRT-08233 with associated crimp pins and housings.
footprint 1X02_LOCK
pins: 1, 2

## M02LOCK_LONGPADS
designator JP?, comment <b>Header 2</b> / Standard 2-pin 0.1" header. Use with straight break away headers (SKU : PRT-00116), right angle break away headers (PRT-00553), swiss pins (PRT-00743), machine pins (PRT-00117), and female headers (PRT-00115). Molex polarized connector foot print use with SKU : PRT-08233 with associated crimp pins and housings.
footprint 1X02_LOCK_LONGPADS
pins: 1, 2

## M02POGO_PIN_HOLES_ONLY
designator JP?, comment <b>Header 2</b> / Standard 2-pin 0.1" header. Use with straight break away headers (SKU : PRT-00116), right angle break away headers (PRT-00553), swiss pins (PRT-00743), machine pins (PRT-00117), and female headers (PRT-00115). Molex polarized connector foot print use with SKU : PRT-08233 with associated crimp pins and housings.
footprint 1X02_PP_HOLES_ONLY
pins: 1, 2

## M02POLAR
designator JP?, comment <b>Header 2</b> / Standard 2-pin 0.1" header. Use with straight break away headers (SKU : PRT-00116), right angle break away headers (PRT-00553), swiss pins (PRT-00743), machine pins (PRT-00117), and female headers (PRT-00115). Molex polarized connector foot print use with SKU : PRT-08233 with associated crimp pins and housings.
footprint MOLEX-1X2
pins: 1, 2

## M02POLAR_LOCK
designator JP?, comment <b>Header 2</b> / Standard 2-pin 0.1" header. Use with straight break away headers (SKU : PRT-00116), right angle break away headers (PRT-00553), swiss pins (PRT-00743), machine pins (PRT-00117), and female headers (PRT-00115). Molex polarized connector foot print use with SKU : PRT-08233 with associated crimp pins and housings.
footprint MOLEX-1X2_LOCK
pins: 1, 2

## M02PTH
designator JP?, comment <b>Header 2</b> / Standard 2-pin 0.1" header. Use with straight break away headers (SKU : PRT-00116), right angle break away headers (PRT-00553), swiss pins (PRT-00743), machine pins (PRT-00117), and female headers (PRT-00115). Molex polarized connector foot print use with SKU : PRT-08233 with associated crimp pins and housings.
footprint 1X02
pins: 1, 2

## M02PTH2
designator JP?, comment <b>Header 2</b> / Standard 2-pin 0.1" header. Use with straight break away headers (SKU : PRT-00116), right angle break away headers (PRT-00553), swiss pins (PRT-00743), machine pins (PRT-00117), and female headers (PRT-00115). Molex polarized connector foot print use with SKU : PRT-08233 with associated crimp pins and housings.
footprint 1X02_BIG
pins: P$1 1, P$2 2

## M02PTH3
designator JP?, comment <b>Header 2</b> / Standard 2-pin 0.1" header. Use with straight break away headers (SKU : PRT-00116), right angle break away headers (PRT-00553), swiss pins (PRT-00743), machine pins (PRT-00117), and female headers (PRT-00115). Molex polarized connector foot print use with SKU : PRT-08233 with associated crimp pins and housings.
footprint 1X02_LONGPADS
pins: 1, 2

## M02PTH4
designator JP?, comment <b>Header 2</b> / Standard 2-pin 0.1" header. Use with straight break away headers (SKU : PRT-00116), right angle break away headers (PRT-00553), swiss pins (PRT-00743), machine pins (PRT-00117), and female headers (PRT-00115). Molex polarized connector foot print use with SKU : PRT-08233 with associated crimp pins and housings.
footprint 1X02_XTRA_BIG
pins: 1, 2

## M02ROCKER
designator JP?, comment <b>Header 2</b> / Standard 2-pin 0.1" header. Use with straight break away headers (SKU : PRT-00116), right angle break away headers (PRT-00553), swiss pins (PRT-00743), machine pins (PRT-00117), and female headers (PRT-00115). Molex polarized connector foot print use with SKU : PRT-08233 with associated crimp pins and housings.
footprint R_SW_TH
pins: P$3 1, P$4 2

## M02SPRING-2.54-RA
designator JP?, comment <b>Header 2</b> / Standard 2-pin 0.1" header. Use with straight break away headers (SKU : PRT-00116), right angle break away headers (PRT-00553), swiss pins (PRT-00743), machine pins (PRT-00117), and female headers (PRT-00115). Molex polarized connector foot print use with SKU : PRT-08233 with associated crimp pins and housings.
footprint SPRINGTERMINAL-2.54MM-2
pins: 1, 2

## M03
designator X?, comment <b>Header 3</b> / Standard 3-pin 0.1" header. Use with straight break away headers (SKU : PRT-00116), right angle break away headers (PRT-00553), swiss pins (PRT-00743), machine pins (PRT-00117), and female headers (PRT-00115). Molex polarized connector foot print use with SKU : PRT-08232 with associated crimp pins and housings.
footprint JST-3-SMD
pins: 1, 2, 3

## M03JST-PTH
designator X?, comment <b>Header 3</b> / Standard 3-pin 0.1" header. Use with straight break away headers (SKU : PRT-00116), right angle break away headers (PRT-00553), swiss pins (PRT-00743), machine pins (PRT-00117), and female headers (PRT-00115). Molex polarized connector foot print use with SKU : PRT-08232 with associated crimp pins and housings.
footprint JST-3-PTH
pins: 1, 2, 3

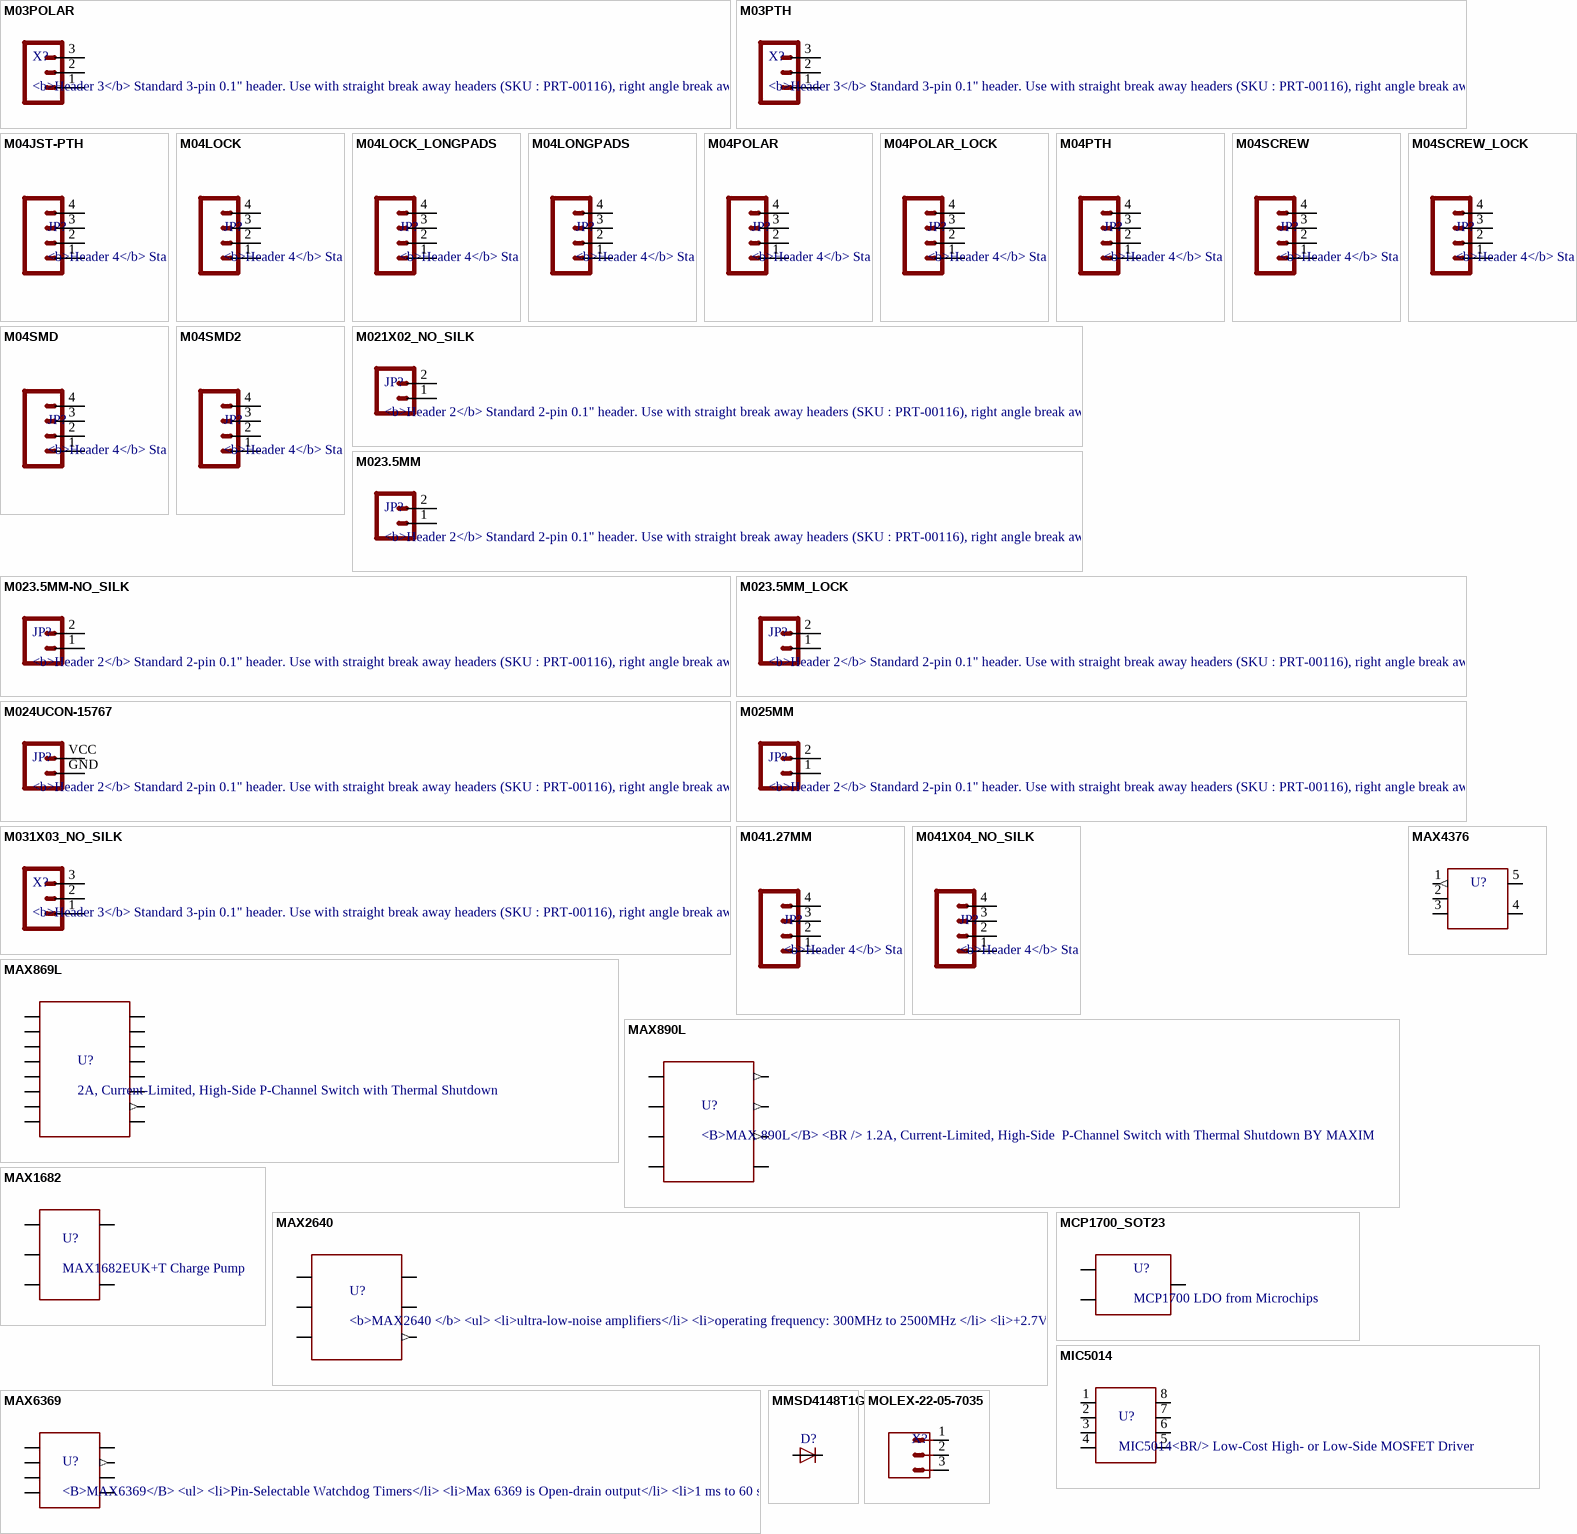
[diagram p4: symbols M03POLAR to MOLEX-22-05-7035]

## M03POLAR
designator X?, comment <b>Header 3</b> / Standard 3-pin 0.1" header. Use with straight break away headers (SKU : PRT-00116), right angle break away headers (PRT-00553), swiss pins (PRT-00743), machine pins (PRT-00117), and female headers (PRT-00115). Molex polarized connector foot print use with SKU : PRT-08232 with associated crimp pins and housings.
footprint MOLEX-1X3
pins: 1, 2, 3

## M03PTH
designator X?, comment <b>Header 3</b> / Standard 3-pin 0.1" header. Use with straight break away headers (SKU : PRT-00116), right angle break away headers (PRT-00553), swiss pins (PRT-00743), machine pins (PRT-00117), and female headers (PRT-00115). Molex polarized connector foot print use with SKU : PRT-08232 with associated crimp pins and housings.
footprint 1X03
pins: 1, 2, 3

## M04JST-PTH
designator JP?, comment <b>Header 4</b> / Standard 4-pin 0.1" header. Use with straight break away headers (SKU : PRT-00116), right angle break away headers (PRT-00553), swiss pins (PRT-00743), machine pins (PRT-00117), and female headers (PRT-00115). Molex polarized connector foot print use with SKU : PRT-08231 with associated crimp pins and housings. 1MM SMD Version SKU: PRT-10208
footprint JST-4-PTH
pins: 1, 2, 3, 4

## M04LOCK
designator JP?, comment <b>Header 4</b> / Standard 4-pin 0.1" header. Use with straight break away headers (SKU : PRT-00116), right angle break away headers (PRT-00553), swiss pins (PRT-00743), machine pins (PRT-00117), and female headers (PRT-00115). Molex polarized connector foot print use with SKU : PRT-08231 with associated crimp pins and housings. 1MM SMD Version SKU: PRT-10208
footprint 1X04_LOCK
pins: 1, 2, 3, 4

## M04LOCK_LONGPADS
designator JP?, comment <b>Header 4</b> / Standard 4-pin 0.1" header. Use with straight break away headers (SKU : PRT-00116), right angle break away headers (PRT-00553), swiss pins (PRT-00743), machine pins (PRT-00117), and female headers (PRT-00115). Molex polarized connector foot print use with SKU : PRT-08231 with associated crimp pins and housings. 1MM SMD Version SKU: PRT-10208
footprint 1X04_LOCK_LONGPADS
pins: 1, 2, 3, 4

## M04LONGPADS
designator JP?, comment <b>Header 4</b> / Standard 4-pin 0.1" header. Use with straight break away headers (SKU : PRT-00116), right angle break away headers (PRT-00553), swiss pins (PRT-00743), machine pins (PRT-00117), and female headers (PRT-00115). Molex polarized connector foot print use with SKU : PRT-08231 with associated crimp pins and housings. 1MM SMD Version SKU: PRT-10208
footprint 1X04_LONGPADS
pins: 1, 2, 3, 4

## M04POLAR
designator JP?, comment <b>Header 4</b> / Standard 4-pin 0.1" header. Use with straight break away headers (SKU : PRT-00116), right angle break away headers (PRT-00553), swiss pins (PRT-00743), machine pins (PRT-00117), and female headers (PRT-00115). Molex polarized connector foot print use with SKU : PRT-08231 with associated crimp pins and housings. 1MM SMD Version SKU: PRT-10208
footprint MOLEX-1X4
pins: 1, 2, 3, 4

## M04POLAR_LOCK
designator JP?, comment <b>Header 4</b> / Standard 4-pin 0.1" header. Use with straight break away headers (SKU : PRT-00116), right angle break away headers (PRT-00553), swiss pins (PRT-00743), machine pins (PRT-00117), and female headers (PRT-00115). Molex polarized connector foot print use with SKU : PRT-08231 with associated crimp pins and housings. 1MM SMD Version SKU: PRT-10208
footprint MOLEX-1X4_LOCK
pins: 1, 2, 3, 4

## M04PTH
designator JP?, comment <b>Header 4</b> / Standard 4-pin 0.1" header. Use with straight break away headers (SKU : PRT-00116), right angle break away headers (PRT-00553), swiss pins (PRT-00743), machine pins (PRT-00117), and female headers (PRT-00115). Molex polarized connector foot print use with SKU : PRT-08231 with associated crimp pins and housings. 1MM SMD Version SKU: PRT-10208
footprint 1X04
pins: 1, 2, 3, 4

## M04SCREW
designator JP?, comment <b>Header 4</b> / Standard 4-pin 0.1" header. Use with straight break away headers (SKU : PRT-00116), right angle break away headers (PRT-00553), swiss pins (PRT-00743), machine pins (PRT-00117), and female headers (PRT-00115). Molex polarized connector foot print use with SKU : PRT-08231 with associated crimp pins and housings. 1MM SMD Version SKU: PRT-10208
footprint SCREWTERMINAL-3.5MM-4
pins: 1, 2, 3, 4

## M04SCREW_LOCK
designator JP?, comment <b>Header 4</b> / Standard 4-pin 0.1" header. Use with straight break away headers (SKU : PRT-00116), right angle break away headers (PRT-00553), swiss pins (PRT-00743), machine pins (PRT-00117), and female headers (PRT-00115). Molex polarized connector foot print use with SKU : PRT-08231 with associated crimp pins and housings. 1MM SMD Version SKU: PRT-10208
footprint SCREWTERMINAL-3.5MM-4_LOCK
pins: 1, 2, 3, 4

## M04SMD
designator JP?, comment <b>Header 4</b> / Standard 4-pin 0.1" header. Use with straight break away headers (SKU : PRT-00116), right angle break away headers (PRT-00553), swiss pins (PRT-00743), machine pins (PRT-00117), and female headers (PRT-00115). Molex polarized connector foot print use with SKU : PRT-08231 with associated crimp pins and housings. 1MM SMD Version SKU: PRT-10208
footprint 1X04-SMD
pins: 1, 2, 3, 4

## M04SMD2
designator JP?, comment <b>Header 4</b> / Standard 4-pin 0.1" header. Use with straight break away headers (SKU : PRT-00116), right angle break away headers (PRT-00553), swiss pins (PRT-00743), machine pins (PRT-00117), and female headers (PRT-00115). Molex polarized connector foot print use with SKU : PRT-08231 with associated crimp pins and housings. 1MM SMD Version SKU: PRT-10208
footprint 1X04-1MM-RA
pins: 1, 2, 3, 4

## M021X02_NO_SILK
designator JP?, comment <b>Header 2</b> / Standard 2-pin 0.1" header. Use with straight break away headers (SKU : PRT-00116), right angle break away headers (PRT-00553), swiss pins (PRT-00743), machine pins (PRT-00117), and female headers (PRT-00115). Molex polarized connector foot print use with SKU : PRT-08233 with associated crimp pins and housings.
footprint 1X02_NO_SILK
pins: 1, 2

## M023.5MM
designator JP?, comment <b>Header 2</b> / Standard 2-pin 0.1" header. Use with straight break away headers (SKU : PRT-00116), right angle break away headers (PRT-00553), swiss pins (PRT-00743), machine pins (PRT-00117), and female headers (PRT-00115). Molex polarized connector foot print use with SKU : PRT-08233 with associated crimp pins and housings.
footprint SCREWTERMINAL-3.5MM-2
pins: 1, 2

## M023.5MM-NO_SILK
designator JP?, comment <b>Header 2</b> / Standard 2-pin 0.1" header. Use with straight break away headers (SKU : PRT-00116), right angle break away headers (PRT-00553), swiss pins (PRT-00743), machine pins (PRT-00117), and female headers (PRT-00115). Molex polarized connector foot print use with SKU : PRT-08233 with associated crimp pins and housings.
footprint SCREWTERMINAL-3.5MM-2-NS
pins: 1, 2

## M023.5MM_LOCK
designator JP?, comment <b>Header 2</b> / Standard 2-pin 0.1" header. Use with straight break away headers (SKU : PRT-00116), right angle break away headers (PRT-00553), swiss pins (PRT-00743), machine pins (PRT-00117), and female headers (PRT-00115). Molex polarized connector foot print use with SKU : PRT-08233 with associated crimp pins and housings.
footprint SCREWTERMINAL-3.5MM-2_LOCK
pins: 1, 2

## M024UCON-15767
designator JP?, comment <b>Header 2</b> / Standard 2-pin 0.1" header. Use with straight break away headers (SKU : PRT-00116), right angle break away headers (PRT-00553), swiss pins (PRT-00743), machine pins (PRT-00117), and female headers (PRT-00115). Molex polarized connector foot print use with SKU : PRT-08233 with associated crimp pins and housings.
footprint JST-2-SMD-VERT
pins: GND 1, VCC 2

## M025MM
designator JP?, comment <b>Header 2</b> / Standard 2-pin 0.1" header. Use with straight break away headers (SKU : PRT-00116), right angle break away headers (PRT-00553), swiss pins (PRT-00743), machine pins (PRT-00117), and female headers (PRT-00115). Molex polarized connector foot print use with SKU : PRT-08233 with associated crimp pins and housings.
footprint SCREWTERMINAL-5MM-2
pins: 1, 2

## M031X03_NO_SILK
designator X?, comment <b>Header 3</b> / Standard 3-pin 0.1" header. Use with straight break away headers (SKU : PRT-00116), right angle break away headers (PRT-00553), swiss pins (PRT-00743), machine pins (PRT-00117), and female headers (PRT-00115). Molex polarized connector foot print use with SKU : PRT-08232 with associated crimp pins and housings.
footprint 1X03_NO_SILK
pins: 1, 2, 3

## M041.27MM
designator JP?, comment <b>Header 4</b> / Standard 4-pin 0.1" header. Use with straight break away headers (SKU : PRT-00116), right angle break away headers (PRT-00553), swiss pins (PRT-00743), machine pins (PRT-00117), and female headers (PRT-00115). Molex polarized connector foot print use with SKU : PRT-08231 with associated crimp pins and housings. 1MM SMD Version SKU: PRT-10208
footprint 1X04-1.27MM
pins: 1, 2, 3, 4

## M041X04_NO_SILK
designator JP?, comment <b>Header 4</b> / Standard 4-pin 0.1" header. Use with straight break away headers (SKU : PRT-00116), right angle break away headers (PRT-00553), swiss pins (PRT-00743), machine pins (PRT-00117), and female headers (PRT-00115). Molex polarized connector foot print use with SKU : PRT-08231 with associated crimp pins and housings. 1MM SMD Version SKU: PRT-10208
footprint 1X04_NO_SILK
pins: 1, 2, 3, 4

## MAX869L
designator U?, comment 2A, Current-Limited, High-Side / P-Channel Switch with Thermal Shutdown
footprint 16QSOP
pins: 1 P$1 (power), 2 P$2 (power), 3 P$3 (power), 4 P$4 (power), 5 P$5 (power), 6 P$6 (power), 7 P$7, 8 P$8 (power), 9 P$9, 10 P$10 (out), 11 P$11 (power), 12 P$12 (power), 13 P$13 (power), 14 P$14 (power), 15 P$15 (power), 16 P$16 (power)

## MAX890L
designator U?, comment <B>MAX 890L</B> / <BR /> / 1.2A, Current-Limited, High-Side / P-Channel Switch with Thermal Shutdown BY MAXIM
footprint SO8
pins: 1 P$1, 2 P$2, 3 P$3, 4 P$4 (power), 5 P$5, 6 P$6 (out), 7 P$7 (out), 8 P$8 (out)

## MAX1682
designator U?, comment MAX1682EUK+T Charge Pump
footprint SOT23-5DBV
pins: 1 P$1 (power), 2 P$2 (power), 3 P$3, 4 P$4 (power), 5 P$5

## MAX2640
designator U?, comment <b>MAX2640 </b> / <ul> / <li>ultra-low-noise amplifiers</li> / <li>operating frequency: 300MHz to 2500MHz </li> / <li>+2.7V to +5.5V Single-Supply Operation  </li> / <li>Low 3.5mA Supply Current </li> / </ul>
footprint SOT23-6
pins: 1, 2 (power), 3 (power), 4 (out), 5 (power), 6 (power)

## MAX4376
designator U?
footprint SOT23-5DBV
pins: 1 P$1 (out), 2 P$2 (power), 3 P$3 (power), 4 P$4, 5 P$5

## MAX6369
designator U?, comment <B>MAX6369</B> / <ul> / <li>Pin-Selectable Watchdog Timers</li> / <li>Max 6369 is Open-drain output</li> / <li>1 ms to 60 s seletable timeout</li> / </ul>
footprint SOT23-8
pins: 1 P$1, 2 P$2 (power), 3 P$3, 4 P$4, 5 P$5, 6 P$6, 7 P$7 (out), 8 P$8 (power)

## MCP1700_SOT23
designator U?, comment MCP1700 LDO from Microchips
footprint SOT23
pins: 1 (power), 2 (power), 3 (power)

## MIC5014
designator U?, comment MIC5014<BR/> / Low-Cost High- or Low-Side MOSFET Driver
footprint SO8
pins: 1 P$1, 2 P$2, 3 P$3, 4 P$4, 5 P$5, 6 P$6, 7 P$7, 8 P$8

## MMSD4148T1G
designator D?
footprint SOD-123
pins: A, C

## MOLEX-22-05-7035
designator X?
footprint 22-05-7035
pins: 1, 2, 3

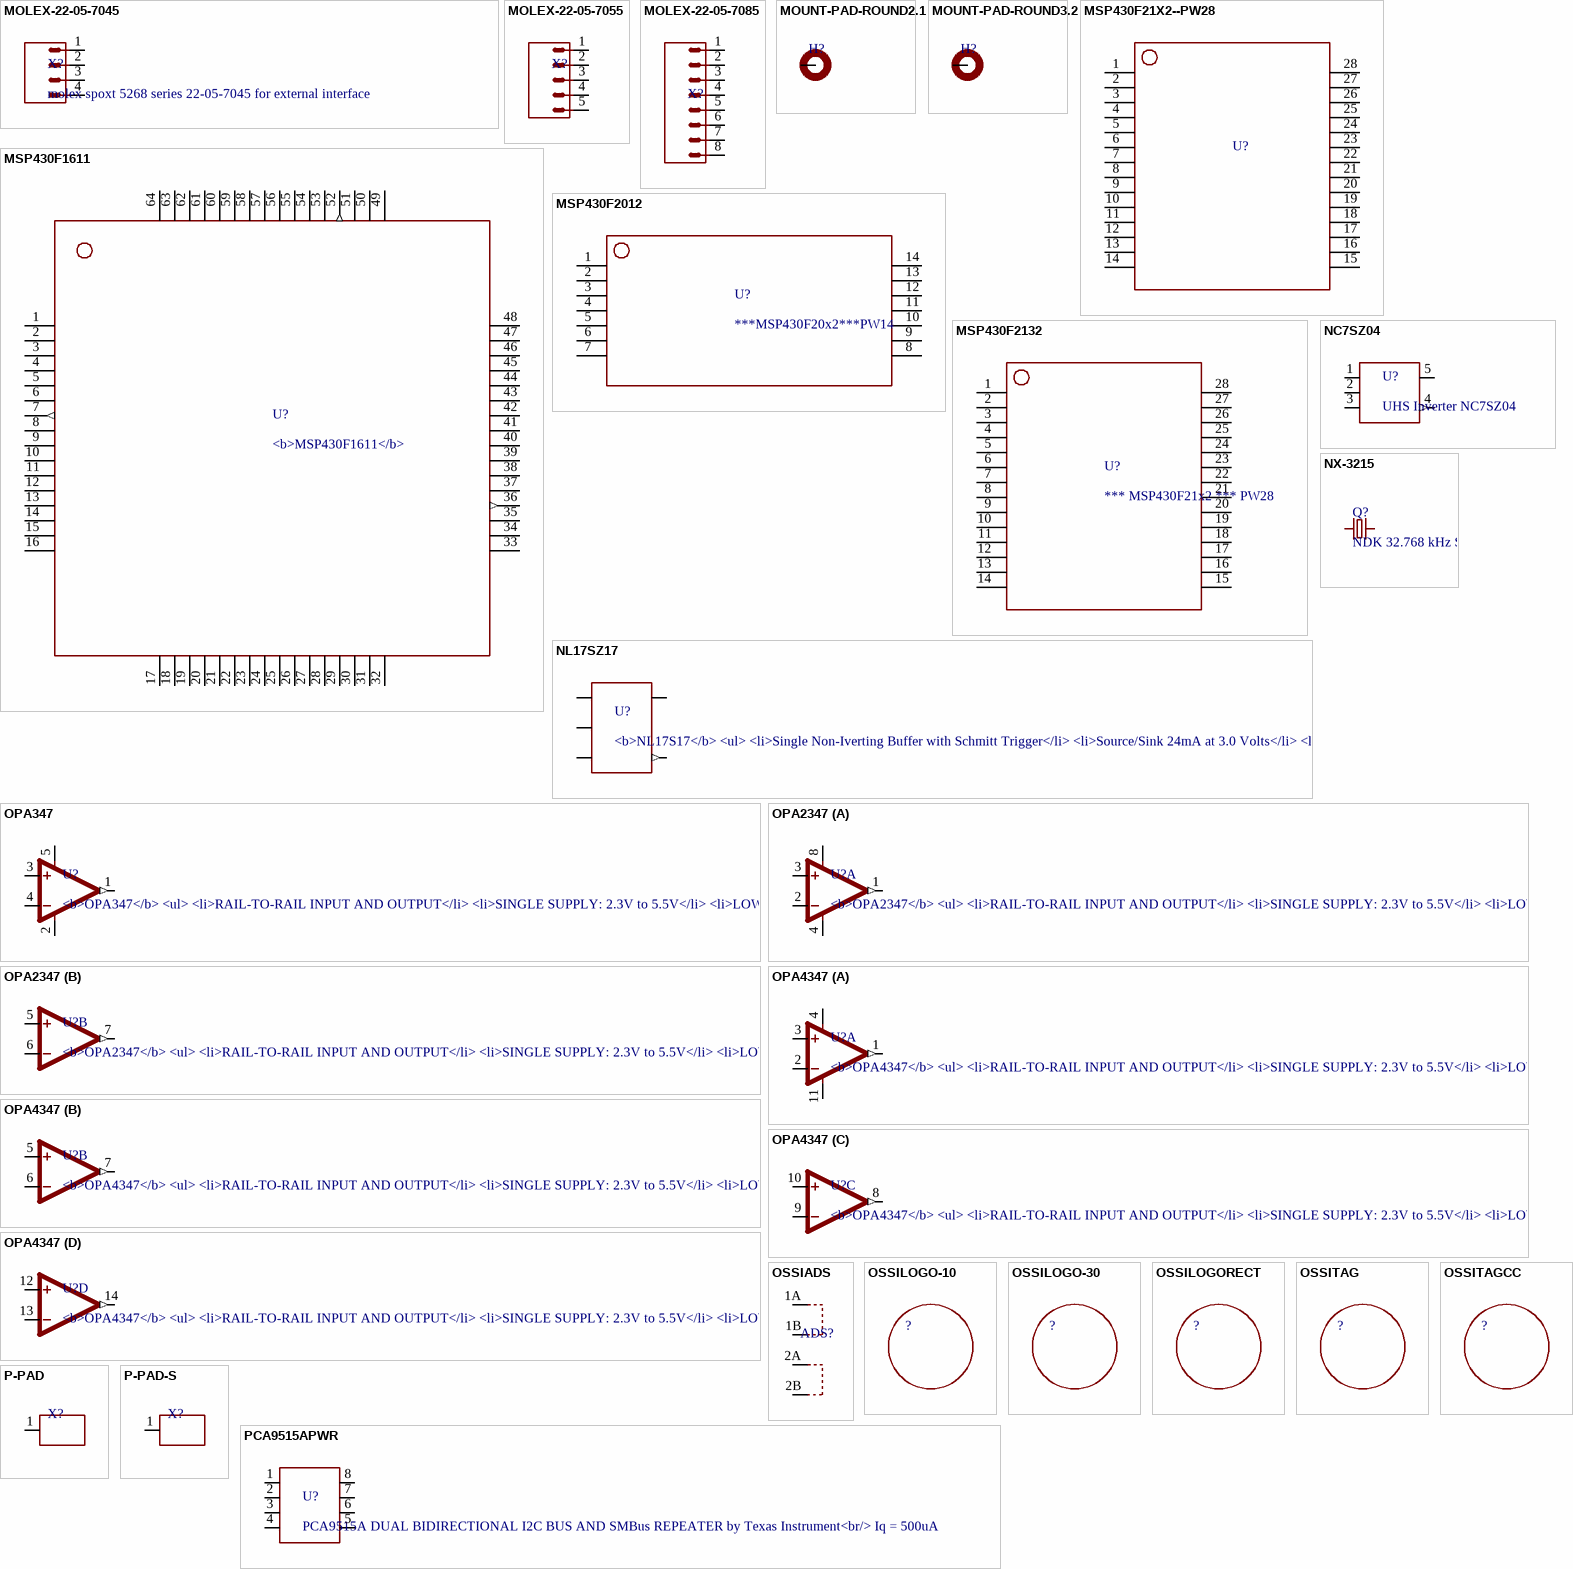
[diagram p5: symbols MOLEX-22-05-7045 to PCA9515APWR]

## MOLEX-22-05-7045
designator X?, comment molex spoxt 5268 series 22-05-7045 for external interface
footprint 22-05-7045
pins: 1, 2, 3, 4

## MOLEX-22-05-7055
designator X?
footprint 22-05-7055
pins: 1, 2, 3, 4, 5

## MOLEX-22-05-7085
designator X?
footprint 22-05-7085
pins: 1, 2, 3, 4, 5, 6, 7, 8

## MOUNT-PAD-ROUND2.1
designator H?
footprint 2.1-PAD-ROUND
pins: B3,2 MOUNT

## MOUNT-PAD-ROUND3.2
designator H?
footprint 3.2-PAD-ROUND
pins: B3,2 MOUNT

## MSP430F21X2--PW28
designator U?
footprint PW28
pins: 1, 2 (power), 3, 4 (power), 5, 6, 7, 8, 9, 10, 11, 12, 13, 14, 15, 16, 17, 18, 19, 20, 21, 22, 23, 24, 25, 26, 27, 28

## MSP430F1611
designator U?, comment <b>MSP430F1611</b>
footprint PM/PAG64
pins: 1 (power), 2, 3, 4, 5, 6, 7 (out), 8, 9, 10, 11, 12, 13, 14, 15, 16, 17, 18, 19, 20, 21, 22, 23, 24, 25, 26, 27, 28, 29, 30, 31, 32, 33, 34, 35, 36 (out), 37, 38, 39, 40, 41, 42, 43, 44, 45, 46, 47, 48, 49, 50, 51, 52 (out), 53, 54, 55, 56, 57, 58, 59, 60, 61, 62 (power), 63 (power), 64 (power)

## MSP430F2012
designator U?, comment ***MSP430F20x2***PW14
footprint PW14
pins: 1 (power), 2, 3, 4, 5, 6, 7, 8, 9, 10, 11, 12, 13, 14 (power)

## MSP430F2132
designator U?, comment *** MSP430F21x2 *** PW28
footprint PW28
pins: 1, 2 (power), 3, 4 (power), 5, 6, 7, 8, 9, 10, 11, 12, 13, 14, 15, 16, 17, 18, 19, 20, 21, 22, 23, 24, 25, 26, 27, 28

## NC7SZ04
designator U?, comment UHS Inverter NC7SZ04
footprint SC70-5
pins: 1 P$1, 2 P$2, 3 P$3 (oe), 4 P$4 (out), 5 P$5 (power)

## NL17SZ17
designator U?, comment <b>NL17S17</b> / <ul> / <li>Single Non-Iverting Buffer with Schmitt Trigger</li> / <li>Source/Sink 24mA at 3.0 Volts</li> / <li>1.65V ~ 5.5V Vcc Operation</li> / </ul>
footprint SOT-553
pins: 1 P$1, 2 P$2, 3 P$3 (power), 4 P$4 (out), 5 P$5 (power)

## NX-3215
designator Q?, comment NDK 32.768 kHz SMD Crystal<br /> / P/N: NX3215SA-32.768K-STD-MUS-2<br /> / <br /> / <b>Nominal frequency (kHz):</b> 32.768 <br/> / <b>Package Size (L×W×H : mm):</b>  3.2×1.5×0.8 <br/> / <b>Operating Temperature Range(*1)  /  Storage Temperature Range   (°C):</b>  -40 to +85  /  -40 to +85<br/> / <b>Level of drive:</b>   0.1µW (Max. 0.5µW) <br/> / <b>Frequency Tolerance (25±3°C):</b>  ±20×10-6 <br/> / <b>Load Capacitance:</b>  9.0pF, 12.5pF <br/> / <b>Equivalent Series Resistance:</b>  70kΩ Max.<br/> / <b>Ordering Code:</b>  NX3215SA-32.768K-STD-MUA-9 (Load Capacitance9.0pF) /NX3215SA-32.768K-STD-MUA-8 (Load Capacitance12.5pF)
footprint NX-3215
pins: 1, 2

## OPA347
designator U?, comment <b>OPA347</b> / <ul> / <li>RAIL-TO-RAIL INPUT AND OUTPUT</li> / <li>SINGLE SUPPLY: 2.3V to 5.5V</li> / <li>LOW IQ: 20µ</li> / </ul>
footprint SOT23-5DBV
pins: 1 OUT (out), 2 V- (power), 3 +IN, 4 -IN, 5 V+ (power)

## OPA2347
designator U?, comment <b>OPA2347</b> / <ul> / <li>RAIL-TO-RAIL INPUT AND OUTPUT</li> / <li>SINGLE SUPPLY: 2.3V to 5.5V</li> / <li>LOW IQ: 20µ</li> / </ul>
footprint SOT23-8DCN
part A pins: 1 OUT (out), 2 -IN, 3 +IN, 4 V- (power), 8 V+ (power)
part B pins: 5 +IN, 6 -IN, 7 OUT (out)

## OPA4347
designator U?, comment <b>OPA4347</b> / <ul> / <li>RAIL-TO-RAIL INPUT AND OUTPUT</li> / <li>SINGLE SUPPLY: 2.3V to 5.5V</li> / <li>LOW IQ: 20µ</li> / </ul>
footprint TSSOP14-PW
part A pins: 1 OUT (out), 2 -IN, 3 +IN, 4 V+ (power), 11 V- (power)
part B pins: 5 +IN, 6 -IN, 7 OUT (out)
part C pins: 8 OUT (out), 9 -IN, 10 +IN
part D pins: 12 +IN, 13 -IN, 14 OUT (out)

## OSSIADS
designator ADS?
footprint OSSIADS
pins: 1A, 1B, 2A, 2B

## OSSILOGO-10
designator ?
footprint OSSILOGO1010

## OSSILOGO-30
designator ?
footprint OSSILOGO3030

## OSSILOGORECT
designator ?
footprint OSSILOGORECT1005

## OSSITAG
designator ?
footprint OSSISCIENCEISFANTASY

## OSSITAGCC
designator ?
footprint CCLOGO

## P-PAD
designator X?
footprint P-PAD
pins: 1 P$1

## P-PAD-S
designator X?
footprint P-PAD-S
pins: 1 P$1

## PCA9515APWR
designator U?, comment PCA9515A DUAL BIDIRECTIONAL I2C BUS AND SMBus REPEATER by Texas Instrument<br/> / Iq = 500uA
footprint TSSOP-8
pins: 1 P$1, 2 P$2, 3 P$3, 4 P$4, 5 P$5, 6 P$6, 7 P$7, 8 P$8

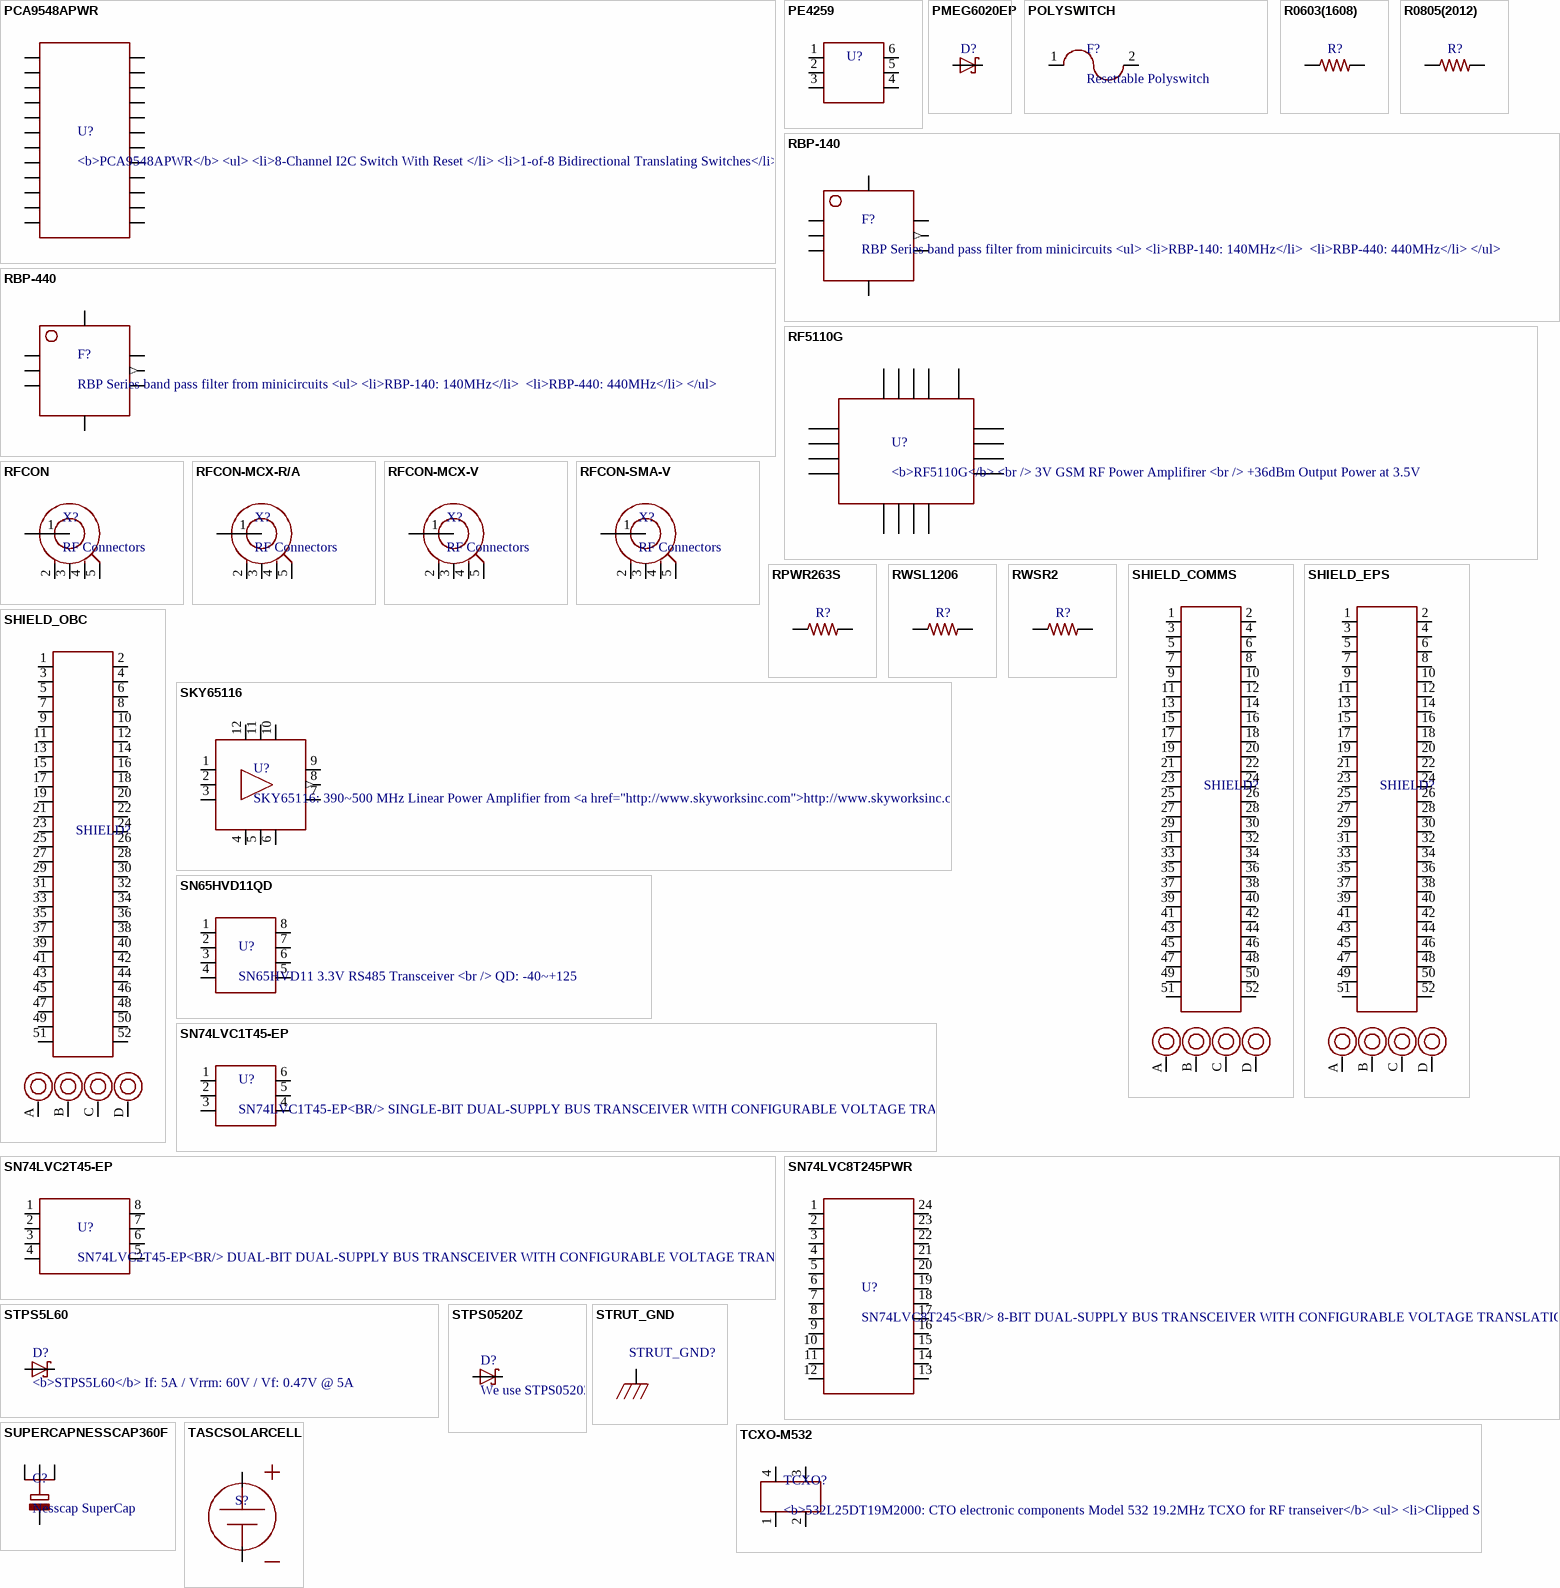
[diagram p6: symbols PCA9548APWR to TCXO-M532]

## PCA9548APWR
designator U?, comment <b>PCA9548APWR</b> / <ul> / <li>8-Channel I2C Switch With Reset </li> / <li>1-of-8 Bidirectional Translating Switches</li> / <li></li> / <li>Address by Three Hardware Address Pins for Use of up to Eight Devices</li> / <li>Operating Power: 2.3 V to 5.5 V</li> / <li>Active-Low Reset Input</li> / </ul>
footprint TSSOP-24-PW
pins: 1 P$1, 2 P$2, 3 P$3, 4 P$4, 5 P$5, 6 P$6, 7 P$7, 8 P$8, 9 P$9, 10 P$10, 11 P$11, 12 P$12 (power), 13 P$13, 14 P$14, 15 P$15, 16 P$16, 17 P$17, 18 P$18, 19 P$19, 20 P$20, 21 P$21, 22 P$22, 23 P$23, 24 P$24 (power)

## PE4259
designator U?
footprint SC70-6
pins: 1 P$1, 2 P$2, 3 P$3, 4 P$4, 5 P$5, 6 P$6

## PMEG6020EP
designator D?
footprint PMEG6020EP
pins: A, C

## POLYSWITCH
designator F?, comment Resettable Polyswitch
footprint NANOSMDC150FCT
pins: 1 P$1, 2 P$2

## R0603(1608)
designator R?
footprint R0603(1608)
pins: 1, 2

## R0805(2012)
designator R?
footprint R0805(2012)
pins: 1, 2

## RBP-140
designator F?, comment RBP Series band pass filter from minicircuits / <ul> / <li>RBP-140: 140MHz</li> / <li>RBP-440: 440MHz</li> / </ul>
footprint RBP
pins: P$1 (power), P$2, P$3 (power), P$4 (power), P$5 (power), P$6 (out), P$7 (power), P$8 (power)

## RBP-440
designator F?, comment RBP Series band pass filter from minicircuits / <ul> / <li>RBP-140: 140MHz</li> / <li>RBP-440: 440MHz</li> / </ul>
footprint RBP
pins: P$1 (power), P$2, P$3 (power), P$4 (power), P$5 (power), P$6 (out), P$7 (power), P$8 (power)

## RF5110G
designator U?, comment <b>RF5110G</b> / <br /> / 3V GSM RF Power Amplifirer / <br /> / +36dBm Output Power at 3.5V
footprint RF5110G
pins: 1 P$1, 2 P$2, 3 P$3, 4 P$4, 5 P$5, 6 P$6, 7 P$7, 8 P$8, 9 P$9, 10 P$10, 11 P$11, 12 P$12, 13 P$13, 14 P$14, 15 P$15, 16 P$16, TPAD P$17

## RFCON
designator X?, comment RF Connectors
footprint MCX-SMT
pins: 1, 2 (oe), 3 (oe), 4 (oe), 5 (oe)

## RFCON-MCX-R/A
designator X?, comment RF Connectors
footprint MCX-R/A
pins: 1, 2 (oe), 3 (oe), 4 (oe), 5 (oe)

## RFCON-MCX-V
designator X?, comment RF Connectors
footprint MCX-V
pins: 1, 2 (oe), 3 (oe), 4 (oe), 5 (oe)

## RFCON-SMA-V
designator X?, comment RF Connectors
footprint SMA-V
pins: 1, 2 (oe), 3 (oe), 4 (oe), 5 (oe)

## RPWR263S
designator R?
footprint PWR263S-20
pins: P$1 1, P$2 2

## RWSL1206
designator R?
footprint WSL1206
pins: P$1 1, P$2 2

## RWSR2
designator R?
footprint R4527(12070)
pins: P$1 1, P$2 2

## SHIELD_COMMS
designator SHIELD?
footprint COMMS_SHIELD
pins: 1, 2, 3, 4, 5, 6, 7, 8, 9, 10, 11, 12, 13, 14, 15, 16, 17, 18, 19, 20, 21, 22, 23, 24, 25, 26, 27, 28, 29, 30, 31, 32, 33, 34, 35, 36, 37, 38, 39, 40, 41, 42, 43, 44, 45, 46, 47, 48, 49, 50, 51, 52, A, B, C, D

## SHIELD_EPS
designator SHIELD?
footprint EPS_SHIELD
pins: 1, 2, 3, 4, 5, 6, 7, 8, 9, 10, 11, 12, 13, 14, 15, 16, 17, 18, 19, 20, 21, 22, 23, 24, 25, 26, 27, 28, 29, 30, 31, 32, 33, 34, 35, 36, 37, 38, 39, 40, 41, 42, 43, 44, 45, 46, 47, 48, 49, 50, 51, 52, A, B, C, D

## SHIELD_OBC
designator SHIELD?
footprint OBC_SHIELD
pins: 1, 2, 3, 4, 5, 6, 7, 8, 9, 10, 11, 12, 13, 14, 15, 16, 17, 18, 19, 20, 21, 22, 23, 24, 25, 26, 27, 28, 29, 30, 31, 32, 33, 34, 35, 36, 37, 38, 39, 40, 41, 42, 43, 44, 45, 46, 47, 48, 49, 50, 51, 52, A, B, C, D

## SKY65116
designator U?, comment SKY65116: 390~500 MHz Linear Power Amplifier from <a href="http://www.skyworksinc.com">http://www.skyworksinc.com</a><br /> / <ul> / <li>Wideband frequency operation: 390–500 MHz</li> / <li>High linearity: OIP3 43 dBm</li> / <li>High efficiency: 40% PAE</li> / <li>High gain: 35 dB</li> / <li>P1 dB = 32.5 dBm</li> / <li>Single DC supply: 3.6 V</li> / <li>Internal RF match and bias circuits</li> / <li>PA on/off voltage control</li> / <li>Operating temperature -40 °C to +85 °C</li> / </ul> / <br /> / <b>Please, refer to datasheet for PCB layout!!!!(vias and ground)</b>
footprint SKY65116
pins: 1 (oe), 2, 3 (oe), 4 (power), 5 (oe), 6 (oe), 7 (oe), 8 (out), 9 (oe), 10 (power), 11, 12

## SN65HVD11QD
designator U?, comment SN65HVD11 3.3V RS485 Transceiver <br /> / QD: -40~+125
footprint SO8
pins: 1 P$1, 2 P$2, 3 P$3, 4 P$4, 5 P$5, 6 P$6, 7 P$7, 8 P$8

## SN74LVC1T45-EP
designator U?, comment SN74LVC1T45-EP<BR/> / SINGLE-BIT DUAL-SUPPLY BUS TRANSCEIVER / WITH CONFIGURABLE VOLTAGE TRANSLATION AND 3-STATE OUTPUTS
footprint SOT-6DCK
pins: 1 P$1, 2 P$2, 3 P$3, 4 P$4, 5 P$5, 6 P$6

## SN74LVC2T45-EP
designator U?, comment SN74LVC2T45-EP<BR/> / DUAL-BIT DUAL-SUPPLY BUS TRANSCEIVER / WITH CONFIGURABLE VOLTAGE TRANSLATION AND 3-STATE OUTPUTS
footprint DCT_R-PDSO-G8
pins: 1 P$1, 2 P$2, 3 P$3, 4 P$4, 5 P$5, 6 P$6, 7 P$7, 8 P$8

## SN74LVC8T245PWR
designator U?, comment SN74LVC8T245<BR/> / 8-BIT DUAL-SUPPLY BUS TRANSCEIVER / WITH CONFIGURABLE VOLTAGE TRANSLATION AND 3-STATE OUTPUTS
footprint PW_R-PDSO-G24
pins: 1 P$1, 2 P$2, 3 P$3, 4 P$4, 5 P$5, 6 P$6, 7 P$7, 8 P$8, 9 P$9, 10 P$10, 11 P$11, 12 P$12, 13 P$13, 14 P$14, 15 P$15, 16 P$16, 17 P$17, 18 P$18, 19 P$19, 20 P$20, 21 P$21, 22 P$22, 23 P$23, 24 P$24

## STPS5L60
designator D?, comment <b>STPS5L60</b> / If: 5A / Vrrm: 60V / Vf: 0.47V @ 5A
footprint STPS5L60
pins: A, C

## STPS0520Z
designator D?, comment We use STPS0520Z by st.com diode for solar cell schottky diode.<br/> / If = 500mA <br /> / Vrrm = 20V<br /> / Vf max = 0.32V<br />
footprint SOD-123
pins: A, C

## STRUT_GND
designator STRUT_GND?
pins: STRUT_GND (oe)

## SUPERCAPNESSCAP360F
designator C?, comment Nesscap SuperCap
footprint NESSCAP360F
pins: N, P1, P2, P3

## TASCSOLARCELL
designator S?
footprint TASCSOLARCELL
pins: N (power), P (power)

## TCXO-M532
designator TCXO?, comment <b>532L25DT19M2000: CTO electronic components Model 532 19.2MHz TCXO for RF transeiver</b> / <ul> / <li>Clipped Sine Wave Output</li> / <li>Operating Voltage, +3.3Vdc</li> / <li>Operating Temperature to -30°C to +85°C</li> / <li>Frequency Stability: ±2.5ppm</li> / </ul>
footprint TCXO_M532
pins: 1 P$1, 2 P$2, 3 P$3, 4 P$4

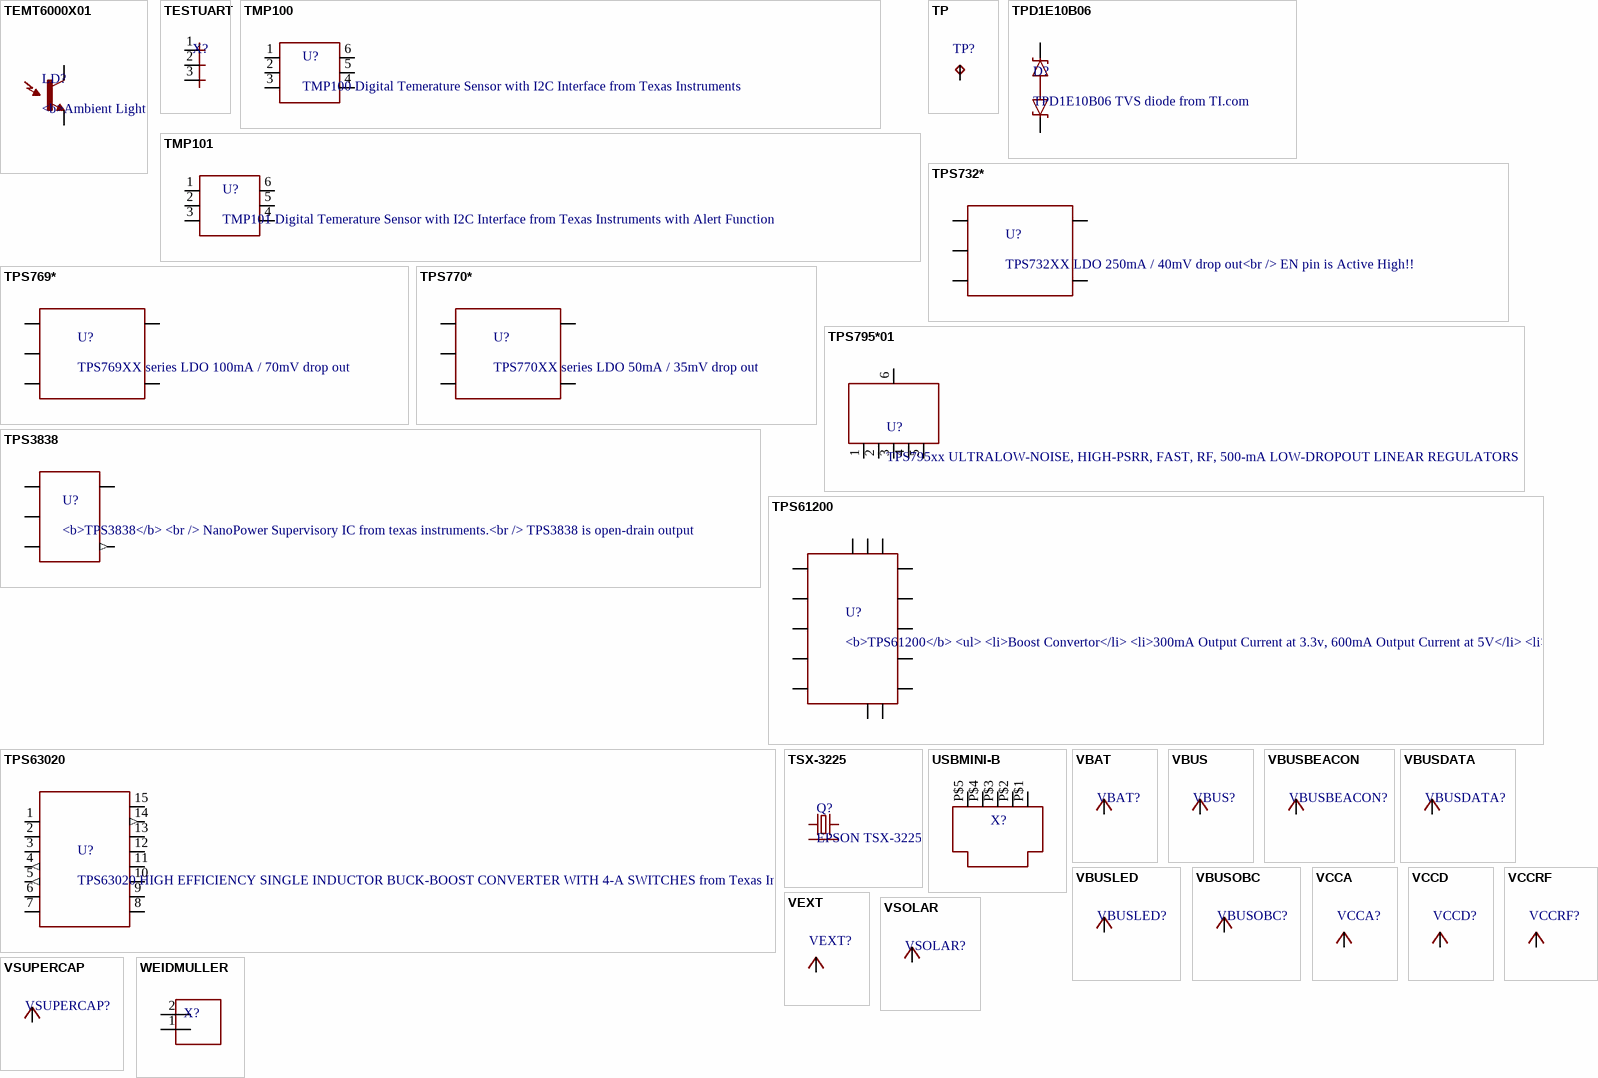
[diagram p7: symbols TEMT6000X01 to WEIDMULLER]

## TEMT6000X01
designator LD?, comment <b>Ambient Light Sensor</b> / Simple light detection sensor. Output varies with light intensity input. Spark Fun Electronics SKU : COM-08348
footprint TEMT6000-SEN
pins: COLLECTOR C1, EMITTER E1

## TESTUART
designator X?
footprint TESTUART
pins: 1, 2, 3

## TMP100
designator U?, comment TMP100 Digital Temerature Sensor with I2C Interface from Texas Instruments
footprint SOT23-6DBV
pins: 1, 2, 3, 4, 5, 6

## TMP101
designator U?, comment TMP101 Digital Temerature Sensor with I2C Interface from Texas Instruments with Alert Function
footprint SOT23-6DBV
pins: 1, 2, 3, 4, 5, 6

## TP
designator TP?
footprint TP-13
pins: TP

## TPD1E10B06
designator D?, comment TPD1E10B06 TVS diode from TI.com
footprint X2SON
pins: 1, 2

## TPS732*
designator U?, comment TPS732XX LDO 250mA / 40mV drop out<br /> / EN pin is Active High!!
footprint SOT23-5DBV
pins: 1 (power), 2 (power), 3, 4, 5 (power)

## TPS769*
designator U?, comment TPS769XX series LDO 100mA / 70mV drop out
footprint SOT23-5DBV
pins: 1 (power), 2 (power), 3, 4, 5 (power)

## TPS770*
designator U?, comment TPS770XX series LDO 50mA / 35mV drop out
footprint SOT23-5DBV
pins: 1 (power), 2 (power), 3, 4, 5 (power)

## TPS795*01
designator U?, comment TPS795xx ULTRALOW-NOISE, HIGH-PSRR, FAST, RF, 500-mA / LOW-DROPOUT LINEAR REGULATORS
footprint SOT223-6
pins: 1 P$1, 2 P$2 (power), 3 P$3 (power), 4 P$4 (power), 5 P$5, 6 P$6 (power)

## TPS3838
designator U?, comment <b>TPS3838</b> / <br /> / NanoPower Supervisory IC from texas instruments.<br /> / TPS3838 is open-drain output
footprint SOT23-5DBV
pins: 1 P$1, 2 P$2 (power), 3 P$3, 4 P$4 (out), 5 P$5 (power)